# Altium integrated library Cypress PLD Flash370i.IntLib: 84 symbols (part 2 of 4)
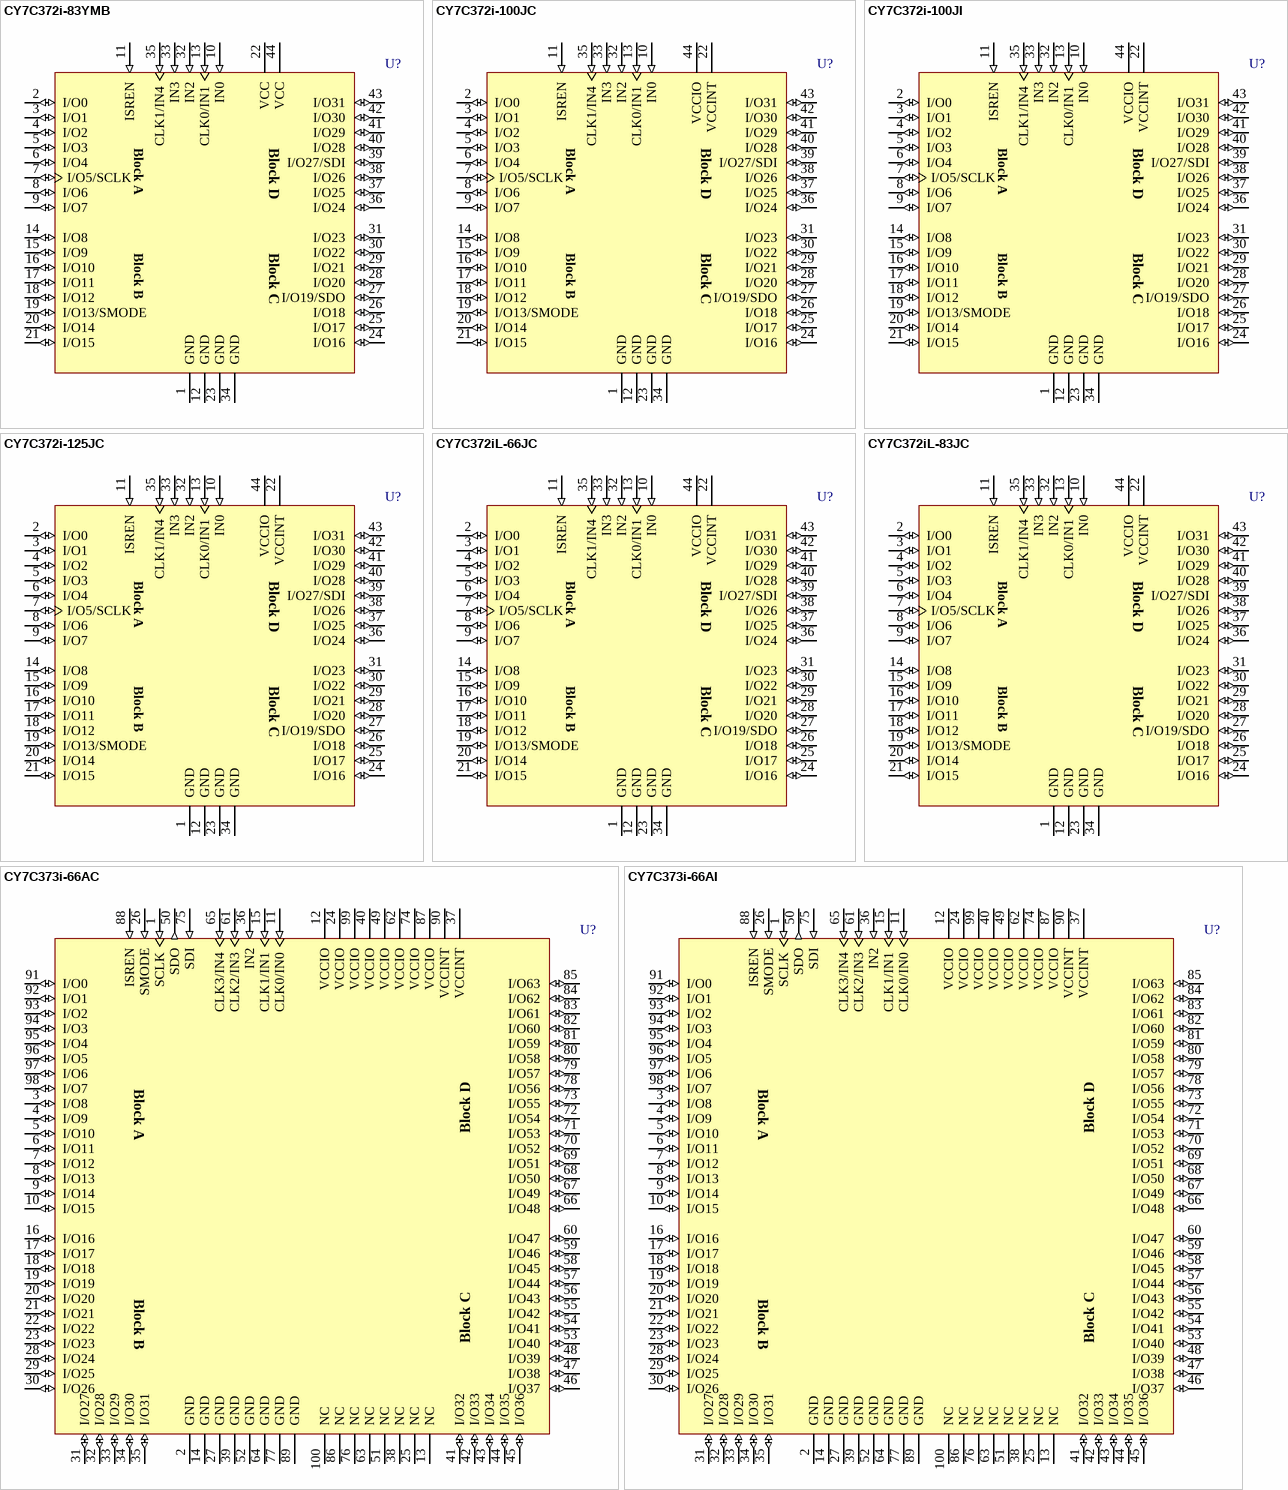
[diagram p20: symbols CY7C372i-83YMB to CY7C373i-66AI]

## CY7C373i-66AC
designator U?
Ultralogic 64-Macrocell Flash CPLD; ComponentAvailability: Not for New Design; Published: 11-Dec-2002; LatestRevisionDate: 13-Apr-2006; LatestRevisionNote: IPC-7351 Footprint Added.; DatasheetVersion: 10-Jul-2000; PackageVersion: Mar-2001; PackageReference: A100; Publisher: Altium Limited; PackageDescription: 100-Pin Thin Quad Flat Pack 0.5 mm Pitch; ComponentLink1Description: Manufacturer Link; ComponentLink1URL: http://www.cypress.com/; ComponentLink2Description: Datasheet; ComponentLink2URL: http://www.cypress.com/portal/server.pt/gateway/PTARGS_0_2_1524_209_259_43/http%3B/sjapp20.mis.cypress.com%3B7001/publishedcontent/publish/design_resources/datasheets/contents/cy7c373i_5.pdf
footprint A100_N (Thin QFP, 100-Leads, Body 14x14mm, Pitch 0.5mm, IPC Medium Density)
footprint A100_L (Thin QFP, 100-Leads, Body 14x14mm, Pitch 0.5mm, IPC High Density)
footprint A100_M (Thin QFP, 100-Leads, Body 14x14mm, Pitch 0.5mm, IPC Low Density)
3D model CY7C373i-A100 (100-Pin Thin Quad Flat Pack 0.5 mm Pitch)
pins: 1 SCLK (in), 2 GND (power), 3 I/O8 (io), 4 I/O9 (io), 5 I/O10 (io), 6 I/O11 (io), 7 I/O12 (io), 8 I/O13 (io), 9 I/O14 (io), 10 I/O15 (io), 11 CLK0/IN0 (in), 12 VCCIO (power), 13 NC, 14 GND (power), 15 CLK1/IN1 (in), 16 I/O16 (io), 17 I/O17 (io), 18 I/O18 (io), 19 I/O19 (io), 20 I/O20 (io), 21 I/O21 (io), 22 I/O22 (io), 23 I/O23 (io), 24 VCCIO (power), 25 NC, 26 SMODE (in), 27 GND (power), 28 I/O24 (io), 29 I/O25 (io), 30 I/O26 (io), 31 I/O27 (io), 32 I/O28 (io), 33 I/O29 (io), 34 I/O30 (io), 35 I/O31 (io), 36 IN2 (in), 37 VCCINT (power), 38 NC, 39 GND (power), 40 VCCIO (power), 41 I/O32 (io), 42 I/O33 (io), 43 I/O34 (io), 44 I/O35 (io), 45 I/O36 (io), 46 I/O37 (io), 47 I/O38 (io), 48 I/O39 (io), 49 VCCIO (power), 50 SDO (out), 51 NC, 52 GND (power), 53 I/O40 (io), 54 I/O41 (io), 55 I/O42 (io), 56 I/O43 (io), 57 I/O44 (io), 58 I/O45 (io), 59 I/O46 (io), 60 I/O47 (io), 61 CLK2/IN3 (in), 62 VCCIO (power), 63 NC, 64 GND (power), 65 CLK3/IN4 (in), 66 I/O48 (io), 67 I/O49 (io), 68 I/O50 (io), 69 I/O51 (io), 70 I/O52 (io), 71 I/O53 (io), 72 I/O54 (io), 73 I/O55 (io), 74 VCCIO (power), 75 SDI (in), 76 NC, 77 GND (power), 78 I/O56 (io), 79 I/O57 (io), 80 I/O58 (io), 81 I/O59 (io), 82 I/O60 (io), 83 I/O61 (io), 84 I/O62 (io), 85 I/O63 (io), 86 NC, 87 VCCIO (power), 88 ISREN (in), 89 GND (power), 90 VCCINT (power), 91 I/O0 (io), 92 I/O1 (io), 93 I/O2 (io), 94 I/O3 (io), 95 I/O4 (io), 96 I/O5 (io), 97 I/O6 (io), 98 I/O7 (io), 99 VCCIO (power), 100 NC
text: Block A; Block D; Block B; Block C

## CY7C373i-66AI
designator U?
Ultralogic 64-Macrocell Flash CPLD; ComponentAvailability: Not for New Design; Published: 11-Dec-2002; LatestRevisionDate: 13-Apr-2006; LatestRevisionNote: IPC-7351 Footprint Added.; DatasheetVersion: 10-Jul-2000; PackageVersion: Mar-2001; PackageReference: A100; Publisher: Altium Limited; PackageDescription: 100-Pin Thin Quad Flat Pack 0.5 mm Pitch; ComponentLink1Description: Manufacturer Link; ComponentLink1URL: http://www.cypress.com/; ComponentLink2Description: Datasheet; ComponentLink2URL: http://www.cypress.com/portal/server.pt/gateway/PTARGS_0_2_1524_209_259_43/http%3B/sjapp20.mis.cypress.com%3B7001/publishedcontent/publish/design_resources/datasheets/contents/cy7c373i_5.pdf
footprint A100_N (Thin QFP, 100-Leads, Body 14x14mm, Pitch 0.5mm, IPC Medium Density)
footprint A100_L (Thin QFP, 100-Leads, Body 14x14mm, Pitch 0.5mm, IPC High Density)
footprint A100_M (Thin QFP, 100-Leads, Body 14x14mm, Pitch 0.5mm, IPC Low Density)
3D model CY7C373i-A100 (100-Pin Thin Quad Flat Pack 0.5 mm Pitch)
pins: 1 SCLK (in), 2 GND (power), 3 I/O8 (io), 4 I/O9 (io), 5 I/O10 (io), 6 I/O11 (io), 7 I/O12 (io), 8 I/O13 (io), 9 I/O14 (io), 10 I/O15 (io), 11 CLK0/IN0 (in), 12 VCCIO (power), 13 NC, 14 GND (power), 15 CLK1/IN1 (in), 16 I/O16 (io), 17 I/O17 (io), 18 I/O18 (io), 19 I/O19 (io), 20 I/O20 (io), 21 I/O21 (io), 22 I/O22 (io), 23 I/O23 (io), 24 VCCIO (power), 25 NC, 26 SMODE (in), 27 GND (power), 28 I/O24 (io), 29 I/O25 (io), 30 I/O26 (io), 31 I/O27 (io), 32 I/O28 (io), 33 I/O29 (io), 34 I/O30 (io), 35 I/O31 (io), 36 IN2 (in), 37 VCCINT (power), 38 NC, 39 GND (power), 40 VCCIO (power), 41 I/O32 (io), 42 I/O33 (io), 43 I/O34 (io), 44 I/O35 (io), 45 I/O36 (io), 46 I/O37 (io), 47 I/O38 (io), 48 I/O39 (io), 49 VCCIO (power), 50 SDO (out), 51 NC, 52 GND (power), 53 I/O40 (io), 54 I/O41 (io), 55 I/O42 (io), 56 I/O43 (io), 57 I/O44 (io), 58 I/O45 (io), 59 I/O46 (io), 60 I/O47 (io), 61 CLK2/IN3 (in), 62 VCCIO (power), 63 NC, 64 GND (power), 65 CLK3/IN4 (in), 66 I/O48 (io), 67 I/O49 (io), 68 I/O50 (io), 69 I/O51 (io), 70 I/O52 (io), 71 I/O53 (io), 72 I/O54 (io), 73 I/O55 (io), 74 VCCIO (power), 75 SDI (in), 76 NC, 77 GND (power), 78 I/O56 (io), 79 I/O57 (io), 80 I/O58 (io), 81 I/O59 (io), 82 I/O60 (io), 83 I/O61 (io), 84 I/O62 (io), 85 I/O63 (io), 86 NC, 87 VCCIO (power), 88 ISREN (in), 89 GND (power), 90 VCCINT (power), 91 I/O0 (io), 92 I/O1 (io), 93 I/O2 (io), 94 I/O3 (io), 95 I/O4 (io), 96 I/O5 (io), 97 I/O6 (io), 98 I/O7 (io), 99 VCCIO (power), 100 NC
text: Block A; Block D; Block B; Block C

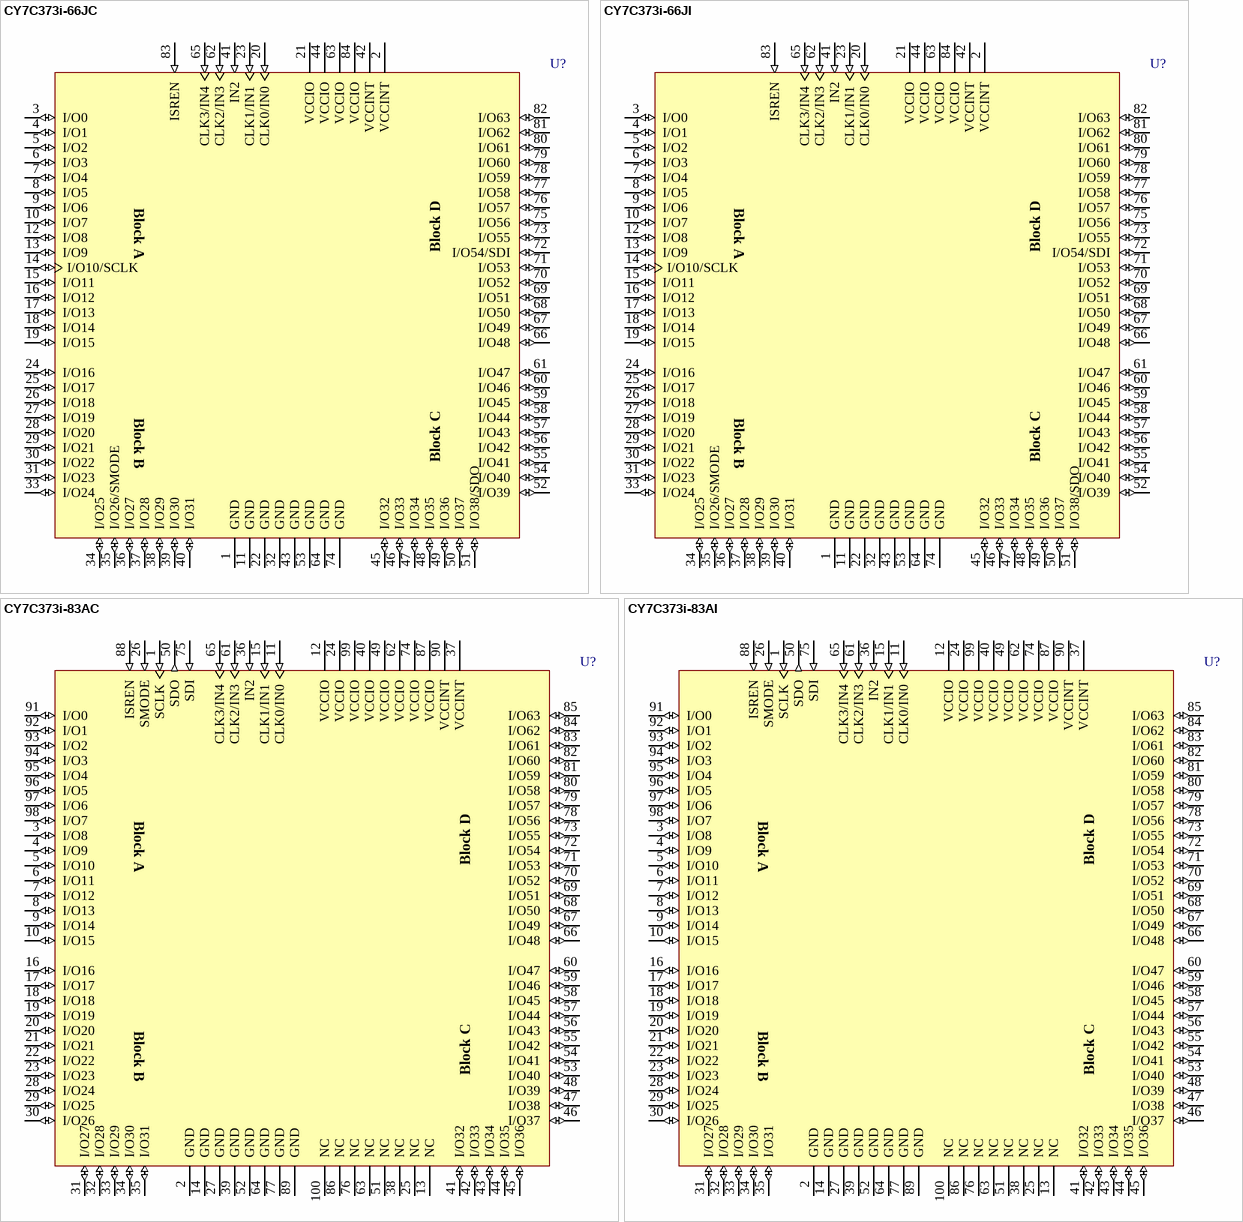
[diagram p4: symbols CY7C373i-66JC to CY7C373i-83AI]

## CY7C373i-66JC
designator U?
Ultralogic 64-Macrocell Flash CPLD; ComponentAvailability: Not for New Design; Published: 11-Dec-2002; LatestRevisionDate: 13-Apr-2006; LatestRevisionNote: IPC-7351 Footprint Added.; DatasheetVersion: 10-Jul-2000; PackageVersion: Mar-2001; PackageReference: J83; Publisher: Altium Limited; PackageDescription: 84-Pin Plastic Leaded Chip Carrier 1.27 mm Pitch; Code_IPC: PLCC-84; ComponentLink1Description: Manufacturer Link; ComponentLink1URL: http://www.cypress.com/; ComponentLink2Description: Datasheet; ComponentLink2URL: http://www.cypress.com/portal/server.pt/gateway/PTARGS_0_2_1524_209_259_43/http%3B/sjapp20.mis.cypress.com%3B7001/publishedcontent/publish/design_resources/datasheets/contents/cy7c373i_5.pdf
footprint J83_N (Leaded Chip Carrier, 84-Leads, Body 29.3x29.3mm, Pitch 1.27mm, IPC Medium Density)
footprint J83_L (Leaded Chip Carrier, 84-Leads, Body 29.3x29.3mm, Pitch 1.27mm, IPC High Density)
footprint J83_M (Leaded Chip Carrier, 84-Leads, Body 29.3x29.3mm, Pitch 1.27mm, IPC Low Density)
3D model CY7C373i-J83 (84-Pin Plastic Leaded Chip Carrier 1.27 mm Pitch)
pins: 1 GND (power), 2 VCCINT (power), 3 I/O0 (io), 4 I/O1 (io), 5 I/O2 (io), 6 I/O3 (io), 7 I/O4 (io), 8 I/O5 (io), 9 I/O6 (io), 10 I/O7 (io), 11 GND (power), 12 I/O8 (io), 13 I/O9 (io), 14 I/O10/SCLK (io), 15 I/O11 (io), 16 I/O12 (io), 17 I/O13 (io), 18 I/O14 (io), 19 I/O15 (io), 20 CLK0/IN0 (in), 21 VCCIO (power), 22 GND (power), 23 CLK1/IN1 (in), 24 I/O16 (io), 25 I/O17 (io), 26 I/O18 (io), 27 I/O19 (io), 28 I/O20 (io), 29 I/O21 (io), 30 I/O22 (io), 31 I/O23 (io), 32 GND (power), 33 I/O24 (io), 34 I/O25 (io), 35 I/O26/SMODE (io), 36 I/O27 (io), 37 I/O28 (io), 38 I/O29 (io), 39 I/O30 (io), 40 I/O31 (io), 41 IN2 (in), 42 VCCINT (power), 43 GND (power), 44 VCCIO (power), 45 I/O32 (io), 46 I/O33 (io), 47 I/O34 (io), 48 I/O35 (io), 49 I/O36 (io), 50 I/O37 (io), 51 I/O38/SDO (io), 52 I/O39 (io), 53 GND (power), 54 I/O40 (io), 55 I/O41 (io), 56 I/O42 (io), 57 I/O43 (io), 58 I/O44 (io), 59 I/O45 (io), 60 I/O46 (io), 61 I/O47 (io), 62 CLK2/IN3 (in), 63 VCCIO (power), 64 GND (power), 65 CLK3/IN4 (in), 66 I/O48 (io), 67 I/O49 (io), 68 I/O50 (io), 69 I/O51 (io), 70 I/O52 (io), 71 I/O53 (io), 72 I/O54/SDI (io), 73 I/O55 (io), 74 GND (power), 75 I/O56 (io), 76 I/O57 (io), 77 I/O58 (io), 78 I/O59 (io), 79 I/O60 (io), 80 I/O61 (io), 81 I/O62 (io), 82 I/O63 (io), 83 ISREN (in), 84 VCCIO (power)
text: Block A; Block D; Block B; Block C

## CY7C373i-66JI
designator U?
Ultralogic 64-Macrocell Flash CPLD; ComponentAvailability: Not for New Design; Published: 11-Dec-2002; LatestRevisionDate: 13-Apr-2006; LatestRevisionNote: IPC-7351 Footprint Added.; DatasheetVersion: 10-Jul-2000; PackageVersion: Mar-2001; PackageReference: J83; Publisher: Altium Limited; PackageDescription: 84-Pin Plastic Leaded Chip Carrier 1.27 mm Pitch; Code_IPC: PLCC-84; ComponentLink1Description: Manufacturer Link; ComponentLink1URL: http://www.cypress.com/; ComponentLink2Description: Datasheet; ComponentLink2URL: http://www.cypress.com/portal/server.pt/gateway/PTARGS_0_2_1524_209_259_43/http%3B/sjapp20.mis.cypress.com%3B7001/publishedcontent/publish/design_resources/datasheets/contents/cy7c373i_5.pdf
footprint J83_N (Leaded Chip Carrier, 84-Leads, Body 29.3x29.3mm, Pitch 1.27mm, IPC Medium Density)
footprint J83_L (Leaded Chip Carrier, 84-Leads, Body 29.3x29.3mm, Pitch 1.27mm, IPC High Density)
footprint J83_M (Leaded Chip Carrier, 84-Leads, Body 29.3x29.3mm, Pitch 1.27mm, IPC Low Density)
3D model CY7C373i-J83 (84-Pin Plastic Leaded Chip Carrier 1.27 mm Pitch)
pins: 1 GND (power), 2 VCCINT (power), 3 I/O0 (io), 4 I/O1 (io), 5 I/O2 (io), 6 I/O3 (io), 7 I/O4 (io), 8 I/O5 (io), 9 I/O6 (io), 10 I/O7 (io), 11 GND (power), 12 I/O8 (io), 13 I/O9 (io), 14 I/O10/SCLK (io), 15 I/O11 (io), 16 I/O12 (io), 17 I/O13 (io), 18 I/O14 (io), 19 I/O15 (io), 20 CLK0/IN0 (in), 21 VCCIO (power), 22 GND (power), 23 CLK1/IN1 (in), 24 I/O16 (io), 25 I/O17 (io), 26 I/O18 (io), 27 I/O19 (io), 28 I/O20 (io), 29 I/O21 (io), 30 I/O22 (io), 31 I/O23 (io), 32 GND (power), 33 I/O24 (io), 34 I/O25 (io), 35 I/O26/SMODE (io), 36 I/O27 (io), 37 I/O28 (io), 38 I/O29 (io), 39 I/O30 (io), 40 I/O31 (io), 41 IN2 (in), 42 VCCINT (power), 43 GND (power), 44 VCCIO (power), 45 I/O32 (io), 46 I/O33 (io), 47 I/O34 (io), 48 I/O35 (io), 49 I/O36 (io), 50 I/O37 (io), 51 I/O38/SDO (io), 52 I/O39 (io), 53 GND (power), 54 I/O40 (io), 55 I/O41 (io), 56 I/O42 (io), 57 I/O43 (io), 58 I/O44 (io), 59 I/O45 (io), 60 I/O46 (io), 61 I/O47 (io), 62 CLK2/IN3 (in), 63 VCCIO (power), 64 GND (power), 65 CLK3/IN4 (in), 66 I/O48 (io), 67 I/O49 (io), 68 I/O50 (io), 69 I/O51 (io), 70 I/O52 (io), 71 I/O53 (io), 72 I/O54/SDI (io), 73 I/O55 (io), 74 GND (power), 75 I/O56 (io), 76 I/O57 (io), 77 I/O58 (io), 78 I/O59 (io), 79 I/O60 (io), 80 I/O61 (io), 81 I/O62 (io), 82 I/O63 (io), 83 ISREN (in), 84 VCCIO (power)
text: Block A; Block D; Block B; Block C

## CY7C373i-83AC
designator U?
Ultralogic 64-Macrocell Flash CPLD; ComponentAvailability: Not for New Design; Published: 11-Dec-2002; LatestRevisionDate: 13-Apr-2006; LatestRevisionNote: IPC-7351 Footprint Added.; DatasheetVersion: 10-Jul-2000; PackageVersion: Mar-2001; PackageReference: A100; Publisher: Altium Limited; PackageDescription: 100-Pin Thin Quad Flat Pack 0.5 mm Pitch; ComponentLink1Description: Manufacturer Link; ComponentLink1URL: http://www.cypress.com/; ComponentLink2Description: Datasheet; ComponentLink2URL: http://www.cypress.com/portal/server.pt/gateway/PTARGS_0_2_1524_209_259_43/http%3B/sjapp20.mis.cypress.com%3B7001/publishedcontent/publish/design_resources/datasheets/contents/cy7c373i_5.pdf
footprint A100_N (Thin QFP, 100-Leads, Body 14x14mm, Pitch 0.5mm, IPC Medium Density)
footprint A100_L (Thin QFP, 100-Leads, Body 14x14mm, Pitch 0.5mm, IPC High Density)
footprint A100_M (Thin QFP, 100-Leads, Body 14x14mm, Pitch 0.5mm, IPC Low Density)
3D model CY7C373i-A100 (100-Pin Thin Quad Flat Pack 0.5 mm Pitch)
pins: 1 SCLK (in), 2 GND (power), 3 I/O8 (io), 4 I/O9 (io), 5 I/O10 (io), 6 I/O11 (io), 7 I/O12 (io), 8 I/O13 (io), 9 I/O14 (io), 10 I/O15 (io), 11 CLK0/IN0 (in), 12 VCCIO (power), 13 NC, 14 GND (power), 15 CLK1/IN1 (in), 16 I/O16 (io), 17 I/O17 (io), 18 I/O18 (io), 19 I/O19 (io), 20 I/O20 (io), 21 I/O21 (io), 22 I/O22 (io), 23 I/O23 (io), 24 VCCIO (power), 25 NC, 26 SMODE (in), 27 GND (power), 28 I/O24 (io), 29 I/O25 (io), 30 I/O26 (io), 31 I/O27 (io), 32 I/O28 (io), 33 I/O29 (io), 34 I/O30 (io), 35 I/O31 (io), 36 IN2 (in), 37 VCCINT (power), 38 NC, 39 GND (power), 40 VCCIO (power), 41 I/O32 (io), 42 I/O33 (io), 43 I/O34 (io), 44 I/O35 (io), 45 I/O36 (io), 46 I/O37 (io), 47 I/O38 (io), 48 I/O39 (io), 49 VCCIO (power), 50 SDO (out), 51 NC, 52 GND (power), 53 I/O40 (io), 54 I/O41 (io), 55 I/O42 (io), 56 I/O43 (io), 57 I/O44 (io), 58 I/O45 (io), 59 I/O46 (io), 60 I/O47 (io), 61 CLK2/IN3 (in), 62 VCCIO (power), 63 NC, 64 GND (power), 65 CLK3/IN4 (in), 66 I/O48 (io), 67 I/O49 (io), 68 I/O50 (io), 69 I/O51 (io), 70 I/O52 (io), 71 I/O53 (io), 72 I/O54 (io), 73 I/O55 (io), 74 VCCIO (power), 75 SDI (in), 76 NC, 77 GND (power), 78 I/O56 (io), 79 I/O57 (io), 80 I/O58 (io), 81 I/O59 (io), 82 I/O60 (io), 83 I/O61 (io), 84 I/O62 (io), 85 I/O63 (io), 86 NC, 87 VCCIO (power), 88 ISREN (in), 89 GND (power), 90 VCCINT (power), 91 I/O0 (io), 92 I/O1 (io), 93 I/O2 (io), 94 I/O3 (io), 95 I/O4 (io), 96 I/O5 (io), 97 I/O6 (io), 98 I/O7 (io), 99 VCCIO (power), 100 NC
text: Block A; Block D; Block B; Block C

## CY7C373i-83AI
designator U?
Ultralogic 64-Macrocell Flash CPLD; ComponentAvailability: Not for New Design; Published: 11-Dec-2002; LatestRevisionDate: 13-Apr-2006; LatestRevisionNote: IPC-7351 Footprint Added.; DatasheetVersion: 10-Jul-2000; PackageVersion: Mar-2001; PackageReference: A100; Publisher: Altium Limited; PackageDescription: 100-Pin Thin Quad Flat Pack 0.5 mm Pitch; ComponentLink1Description: Manufacturer Link; ComponentLink1URL: http://www.cypress.com/; ComponentLink2Description: Datasheet; ComponentLink2URL: http://www.cypress.com/portal/server.pt/gateway/PTARGS_0_2_1524_209_259_43/http%3B/sjapp20.mis.cypress.com%3B7001/publishedcontent/publish/design_resources/datasheets/contents/cy7c373i_5.pdf
footprint A100_N (Thin QFP, 100-Leads, Body 14x14mm, Pitch 0.5mm, IPC Medium Density)
footprint A100_L (Thin QFP, 100-Leads, Body 14x14mm, Pitch 0.5mm, IPC High Density)
footprint A100_M (Thin QFP, 100-Leads, Body 14x14mm, Pitch 0.5mm, IPC Low Density)
3D model CY7C373i-A100 (100-Pin Thin Quad Flat Pack 0.5 mm Pitch)
pins: 1 SCLK (in), 2 GND (power), 3 I/O8 (io), 4 I/O9 (io), 5 I/O10 (io), 6 I/O11 (io), 7 I/O12 (io), 8 I/O13 (io), 9 I/O14 (io), 10 I/O15 (io), 11 CLK0/IN0 (in), 12 VCCIO (power), 13 NC, 14 GND (power), 15 CLK1/IN1 (in), 16 I/O16 (io), 17 I/O17 (io), 18 I/O18 (io), 19 I/O19 (io), 20 I/O20 (io), 21 I/O21 (io), 22 I/O22 (io), 23 I/O23 (io), 24 VCCIO (power), 25 NC, 26 SMODE (in), 27 GND (power), 28 I/O24 (io), 29 I/O25 (io), 30 I/O26 (io), 31 I/O27 (io), 32 I/O28 (io), 33 I/O29 (io), 34 I/O30 (io), 35 I/O31 (io), 36 IN2 (in), 37 VCCINT (power), 38 NC, 39 GND (power), 40 VCCIO (power), 41 I/O32 (io), 42 I/O33 (io), 43 I/O34 (io), 44 I/O35 (io), 45 I/O36 (io), 46 I/O37 (io), 47 I/O38 (io), 48 I/O39 (io), 49 VCCIO (power), 50 SDO (out), 51 NC, 52 GND (power), 53 I/O40 (io), 54 I/O41 (io), 55 I/O42 (io), 56 I/O43 (io), 57 I/O44 (io), 58 I/O45 (io), 59 I/O46 (io), 60 I/O47 (io), 61 CLK2/IN3 (in), 62 VCCIO (power), 63 NC, 64 GND (power), 65 CLK3/IN4 (in), 66 I/O48 (io), 67 I/O49 (io), 68 I/O50 (io), 69 I/O51 (io), 70 I/O52 (io), 71 I/O53 (io), 72 I/O54 (io), 73 I/O55 (io), 74 VCCIO (power), 75 SDI (in), 76 NC, 77 GND (power), 78 I/O56 (io), 79 I/O57 (io), 80 I/O58 (io), 81 I/O59 (io), 82 I/O60 (io), 83 I/O61 (io), 84 I/O62 (io), 85 I/O63 (io), 86 NC, 87 VCCIO (power), 88 ISREN (in), 89 GND (power), 90 VCCINT (power), 91 I/O0 (io), 92 I/O1 (io), 93 I/O2 (io), 94 I/O3 (io), 95 I/O4 (io), 96 I/O5 (io), 97 I/O6 (io), 98 I/O7 (io), 99 VCCIO (power), 100 NC
text: Block A; Block D; Block B; Block C

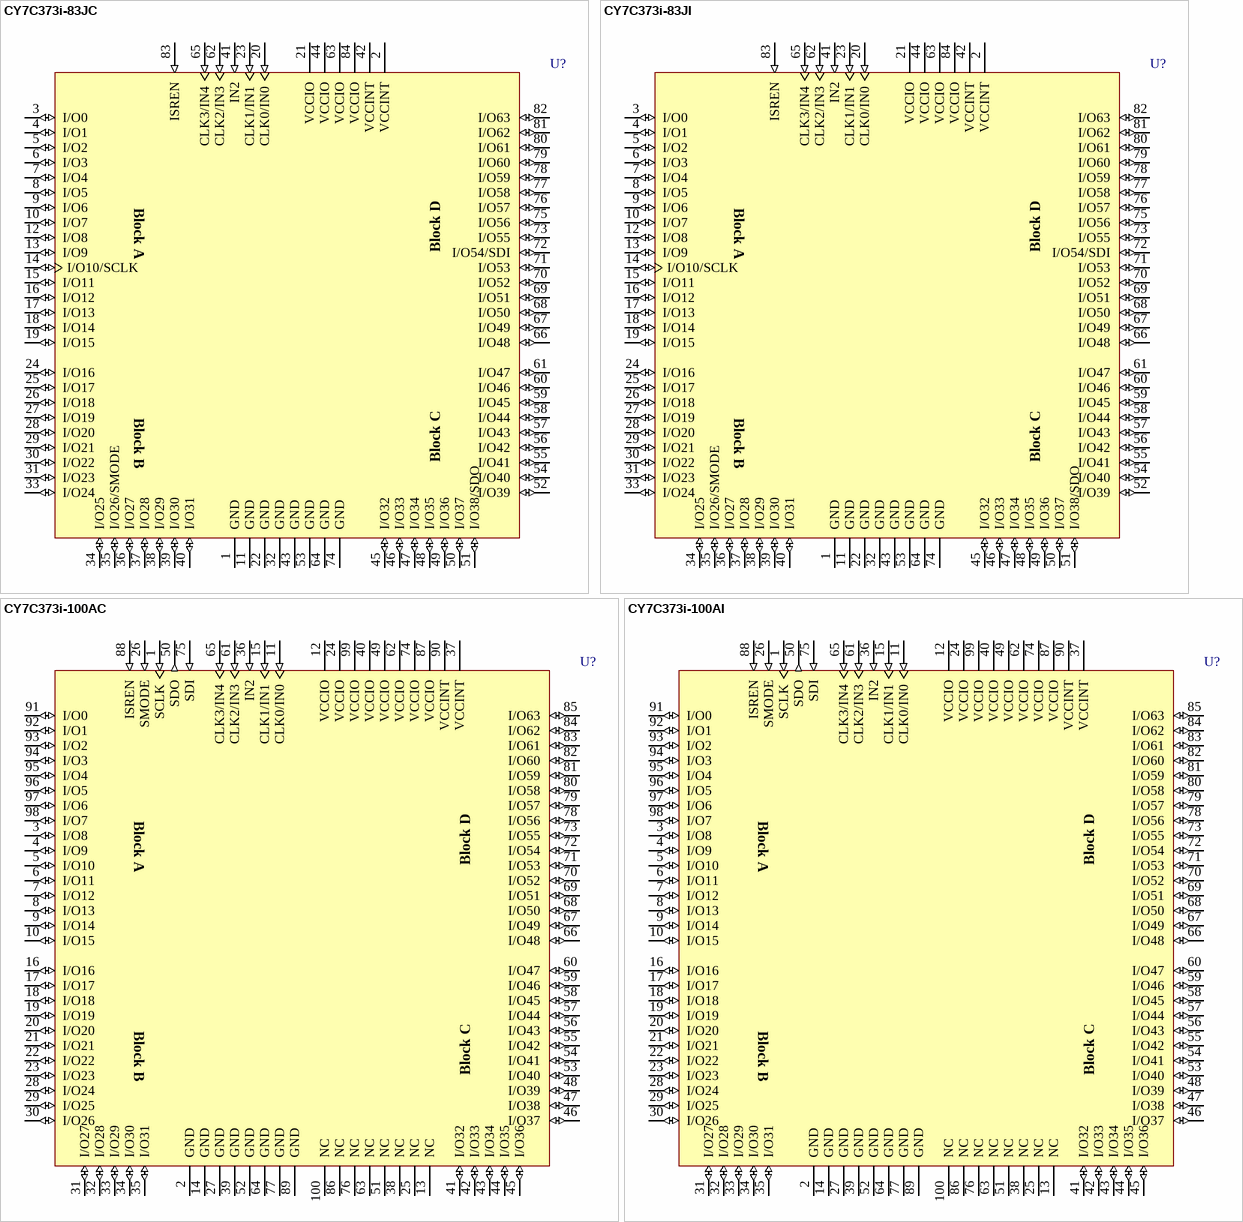
[diagram p5: symbols CY7C373i-83JC to CY7C373i-100AI]

## CY7C373i-83JC
designator U?
Ultralogic 64-Macrocell Flash CPLD; ComponentAvailability: Not for New Design; Published: 11-Dec-2002; LatestRevisionDate: 13-Apr-2006; LatestRevisionNote: IPC-7351 Footprint Added.; DatasheetVersion: 10-Jul-2000; PackageVersion: Mar-2001; PackageReference: J83; Publisher: Altium Limited; PackageDescription: 84-Pin Plastic Leaded Chip Carrier 1.27 mm Pitch; Code_IPC: PLCC-84; ComponentLink1Description: Manufacturer Link; ComponentLink1URL: http://www.cypress.com/; ComponentLink2Description: Datasheet; ComponentLink2URL: http://www.cypress.com/portal/server.pt/gateway/PTARGS_0_2_1524_209_259_43/http%3B/sjapp20.mis.cypress.com%3B7001/publishedcontent/publish/design_resources/datasheets/contents/cy7c373i_5.pdf
footprint J83_N (Leaded Chip Carrier, 84-Leads, Body 29.3x29.3mm, Pitch 1.27mm, IPC Medium Density)
footprint J83_L (Leaded Chip Carrier, 84-Leads, Body 29.3x29.3mm, Pitch 1.27mm, IPC High Density)
footprint J83_M (Leaded Chip Carrier, 84-Leads, Body 29.3x29.3mm, Pitch 1.27mm, IPC Low Density)
3D model CY7C373i-J83 (84-Pin Plastic Leaded Chip Carrier 1.27 mm Pitch)
pins: 1 GND (power), 2 VCCINT (power), 3 I/O0 (io), 4 I/O1 (io), 5 I/O2 (io), 6 I/O3 (io), 7 I/O4 (io), 8 I/O5 (io), 9 I/O6 (io), 10 I/O7 (io), 11 GND (power), 12 I/O8 (io), 13 I/O9 (io), 14 I/O10/SCLK (io), 15 I/O11 (io), 16 I/O12 (io), 17 I/O13 (io), 18 I/O14 (io), 19 I/O15 (io), 20 CLK0/IN0 (in), 21 VCCIO (power), 22 GND (power), 23 CLK1/IN1 (in), 24 I/O16 (io), 25 I/O17 (io), 26 I/O18 (io), 27 I/O19 (io), 28 I/O20 (io), 29 I/O21 (io), 30 I/O22 (io), 31 I/O23 (io), 32 GND (power), 33 I/O24 (io), 34 I/O25 (io), 35 I/O26/SMODE (io), 36 I/O27 (io), 37 I/O28 (io), 38 I/O29 (io), 39 I/O30 (io), 40 I/O31 (io), 41 IN2 (in), 42 VCCINT (power), 43 GND (power), 44 VCCIO (power), 45 I/O32 (io), 46 I/O33 (io), 47 I/O34 (io), 48 I/O35 (io), 49 I/O36 (io), 50 I/O37 (io), 51 I/O38/SDO (io), 52 I/O39 (io), 53 GND (power), 54 I/O40 (io), 55 I/O41 (io), 56 I/O42 (io), 57 I/O43 (io), 58 I/O44 (io), 59 I/O45 (io), 60 I/O46 (io), 61 I/O47 (io), 62 CLK2/IN3 (in), 63 VCCIO (power), 64 GND (power), 65 CLK3/IN4 (in), 66 I/O48 (io), 67 I/O49 (io), 68 I/O50 (io), 69 I/O51 (io), 70 I/O52 (io), 71 I/O53 (io), 72 I/O54/SDI (io), 73 I/O55 (io), 74 GND (power), 75 I/O56 (io), 76 I/O57 (io), 77 I/O58 (io), 78 I/O59 (io), 79 I/O60 (io), 80 I/O61 (io), 81 I/O62 (io), 82 I/O63 (io), 83 ISREN (in), 84 VCCIO (power)
text: Block A; Block D; Block B; Block C

## CY7C373i-83JI
designator U?
Ultralogic 64-Macrocell Flash CPLD; ComponentAvailability: Not for New Design; Published: 11-Dec-2002; LatestRevisionDate: 13-Apr-2006; LatestRevisionNote: IPC-7351 Footprint Added.; DatasheetVersion: 10-Jul-2000; PackageVersion: Mar-2001; PackageReference: J83; Publisher: Altium Limited; PackageDescription: 84-Pin Plastic Leaded Chip Carrier 1.27 mm Pitch; Code_IPC: PLCC-84; ComponentLink1Description: Manufacturer Link; ComponentLink1URL: http://www.cypress.com/; ComponentLink2Description: Datasheet; ComponentLink2URL: http://www.cypress.com/portal/server.pt/gateway/PTARGS_0_2_1524_209_259_43/http%3B/sjapp20.mis.cypress.com%3B7001/publishedcontent/publish/design_resources/datasheets/contents/cy7c373i_5.pdf
footprint J83_N (Leaded Chip Carrier, 84-Leads, Body 29.3x29.3mm, Pitch 1.27mm, IPC Medium Density)
footprint J83_L (Leaded Chip Carrier, 84-Leads, Body 29.3x29.3mm, Pitch 1.27mm, IPC High Density)
footprint J83_M (Leaded Chip Carrier, 84-Leads, Body 29.3x29.3mm, Pitch 1.27mm, IPC Low Density)
3D model CY7C373i-J83 (84-Pin Plastic Leaded Chip Carrier 1.27 mm Pitch)
pins: 1 GND (power), 2 VCCINT (power), 3 I/O0 (io), 4 I/O1 (io), 5 I/O2 (io), 6 I/O3 (io), 7 I/O4 (io), 8 I/O5 (io), 9 I/O6 (io), 10 I/O7 (io), 11 GND (power), 12 I/O8 (io), 13 I/O9 (io), 14 I/O10/SCLK (io), 15 I/O11 (io), 16 I/O12 (io), 17 I/O13 (io), 18 I/O14 (io), 19 I/O15 (io), 20 CLK0/IN0 (in), 21 VCCIO (power), 22 GND (power), 23 CLK1/IN1 (in), 24 I/O16 (io), 25 I/O17 (io), 26 I/O18 (io), 27 I/O19 (io), 28 I/O20 (io), 29 I/O21 (io), 30 I/O22 (io), 31 I/O23 (io), 32 GND (power), 33 I/O24 (io), 34 I/O25 (io), 35 I/O26/SMODE (io), 36 I/O27 (io), 37 I/O28 (io), 38 I/O29 (io), 39 I/O30 (io), 40 I/O31 (io), 41 IN2 (in), 42 VCCINT (power), 43 GND (power), 44 VCCIO (power), 45 I/O32 (io), 46 I/O33 (io), 47 I/O34 (io), 48 I/O35 (io), 49 I/O36 (io), 50 I/O37 (io), 51 I/O38/SDO (io), 52 I/O39 (io), 53 GND (power), 54 I/O40 (io), 55 I/O41 (io), 56 I/O42 (io), 57 I/O43 (io), 58 I/O44 (io), 59 I/O45 (io), 60 I/O46 (io), 61 I/O47 (io), 62 CLK2/IN3 (in), 63 VCCIO (power), 64 GND (power), 65 CLK3/IN4 (in), 66 I/O48 (io), 67 I/O49 (io), 68 I/O50 (io), 69 I/O51 (io), 70 I/O52 (io), 71 I/O53 (io), 72 I/O54/SDI (io), 73 I/O55 (io), 74 GND (power), 75 I/O56 (io), 76 I/O57 (io), 77 I/O58 (io), 78 I/O59 (io), 79 I/O60 (io), 80 I/O61 (io), 81 I/O62 (io), 82 I/O63 (io), 83 ISREN (in), 84 VCCIO (power)
text: Block A; Block D; Block B; Block C

## CY7C373i-100AC
designator U?
Ultralogic 64-Macrocell Flash CPLD; ComponentAvailability: Not for New Design; Published: 11-Dec-2002; LatestRevisionDate: 13-Apr-2006; LatestRevisionNote: IPC-7351 Footprint Added.; DatasheetVersion: 10-Jul-2000; PackageVersion: Mar-2001; PackageReference: A100; Publisher: Altium Limited; PackageDescription: 100-Pin Thin Quad Flat Pack 0.5 mm Pitch; ComponentLink1Description: Manufacturer Link; ComponentLink1URL: http://www.cypress.com/; ComponentLink2Description: Datasheet; ComponentLink2URL: http://www.cypress.com/portal/server.pt/gateway/PTARGS_0_2_1524_209_259_43/http%3B/sjapp20.mis.cypress.com%3B7001/publishedcontent/publish/design_resources/datasheets/contents/cy7c373i_5.pdf
footprint A100_N (Thin QFP, 100-Leads, Body 14x14mm, Pitch 0.5mm, IPC Medium Density)
footprint A100_L (Thin QFP, 100-Leads, Body 14x14mm, Pitch 0.5mm, IPC High Density)
footprint A100_M (Thin QFP, 100-Leads, Body 14x14mm, Pitch 0.5mm, IPC Low Density)
3D model CY7C373i-A100 (100-Pin Thin Quad Flat Pack 0.5 mm Pitch)
pins: 1 SCLK (in), 2 GND (power), 3 I/O8 (io), 4 I/O9 (io), 5 I/O10 (io), 6 I/O11 (io), 7 I/O12 (io), 8 I/O13 (io), 9 I/O14 (io), 10 I/O15 (io), 11 CLK0/IN0 (in), 12 VCCIO (power), 13 NC, 14 GND (power), 15 CLK1/IN1 (in), 16 I/O16 (io), 17 I/O17 (io), 18 I/O18 (io), 19 I/O19 (io), 20 I/O20 (io), 21 I/O21 (io), 22 I/O22 (io), 23 I/O23 (io), 24 VCCIO (power), 25 NC, 26 SMODE (in), 27 GND (power), 28 I/O24 (io), 29 I/O25 (io), 30 I/O26 (io), 31 I/O27 (io), 32 I/O28 (io), 33 I/O29 (io), 34 I/O30 (io), 35 I/O31 (io), 36 IN2 (in), 37 VCCINT (power), 38 NC, 39 GND (power), 40 VCCIO (power), 41 I/O32 (io), 42 I/O33 (io), 43 I/O34 (io), 44 I/O35 (io), 45 I/O36 (io), 46 I/O37 (io), 47 I/O38 (io), 48 I/O39 (io), 49 VCCIO (power), 50 SDO (out), 51 NC, 52 GND (power), 53 I/O40 (io), 54 I/O41 (io), 55 I/O42 (io), 56 I/O43 (io), 57 I/O44 (io), 58 I/O45 (io), 59 I/O46 (io), 60 I/O47 (io), 61 CLK2/IN3 (in), 62 VCCIO (power), 63 NC, 64 GND (power), 65 CLK3/IN4 (in), 66 I/O48 (io), 67 I/O49 (io), 68 I/O50 (io), 69 I/O51 (io), 70 I/O52 (io), 71 I/O53 (io), 72 I/O54 (io), 73 I/O55 (io), 74 VCCIO (power), 75 SDI (in), 76 NC, 77 GND (power), 78 I/O56 (io), 79 I/O57 (io), 80 I/O58 (io), 81 I/O59 (io), 82 I/O60 (io), 83 I/O61 (io), 84 I/O62 (io), 85 I/O63 (io), 86 NC, 87 VCCIO (power), 88 ISREN (in), 89 GND (power), 90 VCCINT (power), 91 I/O0 (io), 92 I/O1 (io), 93 I/O2 (io), 94 I/O3 (io), 95 I/O4 (io), 96 I/O5 (io), 97 I/O6 (io), 98 I/O7 (io), 99 VCCIO (power), 100 NC
text: Block A; Block D; Block B; Block C

## CY7C373i-100AI
designator U?
Ultralogic 64-Macrocell Flash CPLD; ComponentAvailability: Not for New Design; Published: 11-Dec-2002; LatestRevisionDate: 13-Apr-2006; LatestRevisionNote: IPC-7351 Footprint Added.; DatasheetVersion: 10-Jul-2000; PackageVersion: Mar-2001; PackageReference: A100; Publisher: Altium Limited; PackageDescription: 100-Pin Thin Quad Flat Pack 0.5 mm Pitch; ComponentLink1Description: Manufacturer Link; ComponentLink1URL: http://www.cypress.com/; ComponentLink2Description: Datasheet; ComponentLink2URL: http://www.cypress.com/portal/server.pt/gateway/PTARGS_0_2_1524_209_259_43/http%3B/sjapp20.mis.cypress.com%3B7001/publishedcontent/publish/design_resources/datasheets/contents/cy7c373i_5.pdf
footprint A100_N (Thin QFP, 100-Leads, Body 14x14mm, Pitch 0.5mm, IPC Medium Density)
footprint A100_L (Thin QFP, 100-Leads, Body 14x14mm, Pitch 0.5mm, IPC High Density)
footprint A100_M (Thin QFP, 100-Leads, Body 14x14mm, Pitch 0.5mm, IPC Low Density)
3D model CY7C373i-A100 (100-Pin Thin Quad Flat Pack 0.5 mm Pitch)
pins: 1 SCLK (in), 2 GND (power), 3 I/O8 (io), 4 I/O9 (io), 5 I/O10 (io), 6 I/O11 (io), 7 I/O12 (io), 8 I/O13 (io), 9 I/O14 (io), 10 I/O15 (io), 11 CLK0/IN0 (in), 12 VCCIO (power), 13 NC, 14 GND (power), 15 CLK1/IN1 (in), 16 I/O16 (io), 17 I/O17 (io), 18 I/O18 (io), 19 I/O19 (io), 20 I/O20 (io), 21 I/O21 (io), 22 I/O22 (io), 23 I/O23 (io), 24 VCCIO (power), 25 NC, 26 SMODE (in), 27 GND (power), 28 I/O24 (io), 29 I/O25 (io), 30 I/O26 (io), 31 I/O27 (io), 32 I/O28 (io), 33 I/O29 (io), 34 I/O30 (io), 35 I/O31 (io), 36 IN2 (in), 37 VCCINT (power), 38 NC, 39 GND (power), 40 VCCIO (power), 41 I/O32 (io), 42 I/O33 (io), 43 I/O34 (io), 44 I/O35 (io), 45 I/O36 (io), 46 I/O37 (io), 47 I/O38 (io), 48 I/O39 (io), 49 VCCIO (power), 50 SDO (out), 51 NC, 52 GND (power), 53 I/O40 (io), 54 I/O41 (io), 55 I/O42 (io), 56 I/O43 (io), 57 I/O44 (io), 58 I/O45 (io), 59 I/O46 (io), 60 I/O47 (io), 61 CLK2/IN3 (in), 62 VCCIO (power), 63 NC, 64 GND (power), 65 CLK3/IN4 (in), 66 I/O48 (io), 67 I/O49 (io), 68 I/O50 (io), 69 I/O51 (io), 70 I/O52 (io), 71 I/O53 (io), 72 I/O54 (io), 73 I/O55 (io), 74 VCCIO (power), 75 SDI (in), 76 NC, 77 GND (power), 78 I/O56 (io), 79 I/O57 (io), 80 I/O58 (io), 81 I/O59 (io), 82 I/O60 (io), 83 I/O61 (io), 84 I/O62 (io), 85 I/O63 (io), 86 NC, 87 VCCIO (power), 88 ISREN (in), 89 GND (power), 90 VCCINT (power), 91 I/O0 (io), 92 I/O1 (io), 93 I/O2 (io), 94 I/O3 (io), 95 I/O4 (io), 96 I/O5 (io), 97 I/O6 (io), 98 I/O7 (io), 99 VCCIO (power), 100 NC
text: Block A; Block D; Block B; Block C

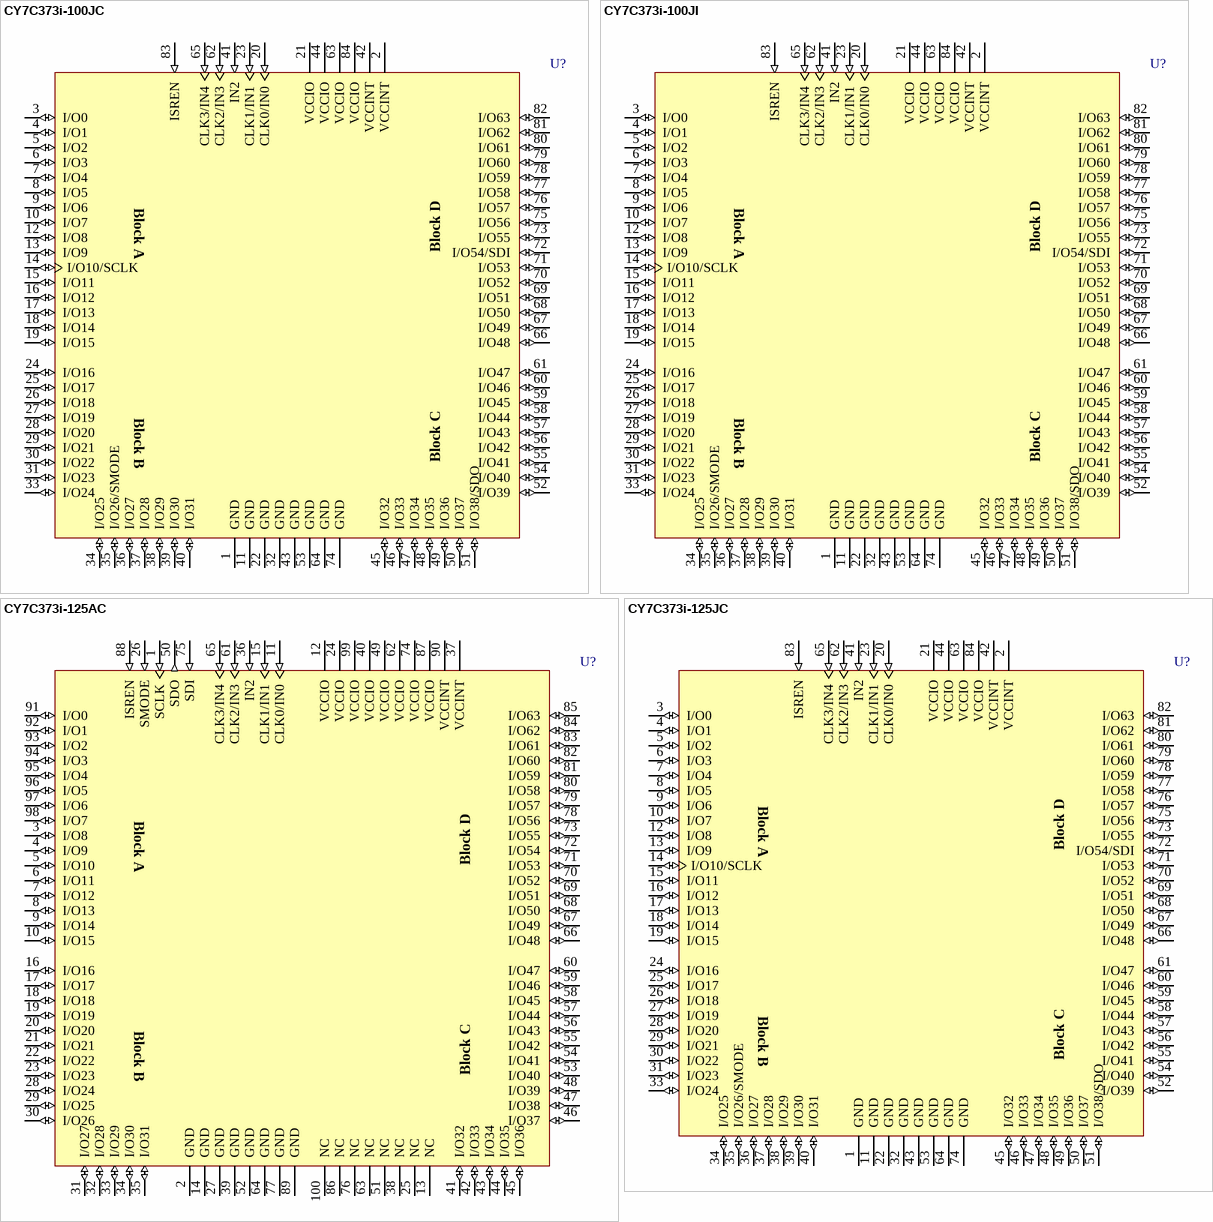
[diagram p6: symbols CY7C373i-100JC to CY7C373i-125JC]

## CY7C373i-100JC
designator U?
Ultralogic 64-Macrocell Flash CPLD; ComponentAvailability: Not for New Design; Published: 11-Dec-2002; LatestRevisionDate: 13-Apr-2006; LatestRevisionNote: IPC-7351 Footprint Added.; DatasheetVersion: 10-Jul-2000; PackageVersion: Mar-2001; PackageReference: J83; Publisher: Altium Limited; PackageDescription: 84-Pin Plastic Leaded Chip Carrier 1.27 mm Pitch; Code_IPC: PLCC-84; ComponentLink1Description: Manufacturer Link; ComponentLink1URL: http://www.cypress.com/; ComponentLink2Description: Datasheet; ComponentLink2URL: http://www.cypress.com/portal/server.pt/gateway/PTARGS_0_2_1524_209_259_43/http%3B/sjapp20.mis.cypress.com%3B7001/publishedcontent/publish/design_resources/datasheets/contents/cy7c373i_5.pdf
footprint J83_N (Leaded Chip Carrier, 84-Leads, Body 29.3x29.3mm, Pitch 1.27mm, IPC Medium Density)
footprint J83_L (Leaded Chip Carrier, 84-Leads, Body 29.3x29.3mm, Pitch 1.27mm, IPC High Density)
footprint J83_M (Leaded Chip Carrier, 84-Leads, Body 29.3x29.3mm, Pitch 1.27mm, IPC Low Density)
3D model CY7C373i-J83 (84-Pin Plastic Leaded Chip Carrier 1.27 mm Pitch)
pins: 1 GND (power), 2 VCCINT (power), 3 I/O0 (io), 4 I/O1 (io), 5 I/O2 (io), 6 I/O3 (io), 7 I/O4 (io), 8 I/O5 (io), 9 I/O6 (io), 10 I/O7 (io), 11 GND (power), 12 I/O8 (io), 13 I/O9 (io), 14 I/O10/SCLK (io), 15 I/O11 (io), 16 I/O12 (io), 17 I/O13 (io), 18 I/O14 (io), 19 I/O15 (io), 20 CLK0/IN0 (in), 21 VCCIO (power), 22 GND (power), 23 CLK1/IN1 (in), 24 I/O16 (io), 25 I/O17 (io), 26 I/O18 (io), 27 I/O19 (io), 28 I/O20 (io), 29 I/O21 (io), 30 I/O22 (io), 31 I/O23 (io), 32 GND (power), 33 I/O24 (io), 34 I/O25 (io), 35 I/O26/SMODE (io), 36 I/O27 (io), 37 I/O28 (io), 38 I/O29 (io), 39 I/O30 (io), 40 I/O31 (io), 41 IN2 (in), 42 VCCINT (power), 43 GND (power), 44 VCCIO (power), 45 I/O32 (io), 46 I/O33 (io), 47 I/O34 (io), 48 I/O35 (io), 49 I/O36 (io), 50 I/O37 (io), 51 I/O38/SDO (io), 52 I/O39 (io), 53 GND (power), 54 I/O40 (io), 55 I/O41 (io), 56 I/O42 (io), 57 I/O43 (io), 58 I/O44 (io), 59 I/O45 (io), 60 I/O46 (io), 61 I/O47 (io), 62 CLK2/IN3 (in), 63 VCCIO (power), 64 GND (power), 65 CLK3/IN4 (in), 66 I/O48 (io), 67 I/O49 (io), 68 I/O50 (io), 69 I/O51 (io), 70 I/O52 (io), 71 I/O53 (io), 72 I/O54/SDI (io), 73 I/O55 (io), 74 GND (power), 75 I/O56 (io), 76 I/O57 (io), 77 I/O58 (io), 78 I/O59 (io), 79 I/O60 (io), 80 I/O61 (io), 81 I/O62 (io), 82 I/O63 (io), 83 ISREN (in), 84 VCCIO (power)
text: Block A; Block D; Block B; Block C

## CY7C373i-100JI
designator U?
Ultralogic 64-Macrocell Flash CPLD; ComponentAvailability: Not for New Design; Published: 11-Dec-2002; LatestRevisionDate: 13-Apr-2006; LatestRevisionNote: IPC-7351 Footprint Added.; DatasheetVersion: 10-Jul-2000; PackageVersion: Mar-2001; PackageReference: J83; Publisher: Altium Limited; PackageDescription: 84-Pin Plastic Leaded Chip Carrier 1.27 mm Pitch; Code_IPC: PLCC-84; ComponentLink1Description: Manufacturer Link; ComponentLink1URL: http://www.cypress.com/; ComponentLink2Description: Datasheet; ComponentLink2URL: http://www.cypress.com/portal/server.pt/gateway/PTARGS_0_2_1524_209_259_43/http%3B/sjapp20.mis.cypress.com%3B7001/publishedcontent/publish/design_resources/datasheets/contents/cy7c373i_5.pdf
footprint J83_N (Leaded Chip Carrier, 84-Leads, Body 29.3x29.3mm, Pitch 1.27mm, IPC Medium Density)
footprint J83_L (Leaded Chip Carrier, 84-Leads, Body 29.3x29.3mm, Pitch 1.27mm, IPC High Density)
footprint J83_M (Leaded Chip Carrier, 84-Leads, Body 29.3x29.3mm, Pitch 1.27mm, IPC Low Density)
3D model CY7C373i-J83 (84-Pin Plastic Leaded Chip Carrier 1.27 mm Pitch)
pins: 1 GND (power), 2 VCCINT (power), 3 I/O0 (io), 4 I/O1 (io), 5 I/O2 (io), 6 I/O3 (io), 7 I/O4 (io), 8 I/O5 (io), 9 I/O6 (io), 10 I/O7 (io), 11 GND (power), 12 I/O8 (io), 13 I/O9 (io), 14 I/O10/SCLK (io), 15 I/O11 (io), 16 I/O12 (io), 17 I/O13 (io), 18 I/O14 (io), 19 I/O15 (io), 20 CLK0/IN0 (in), 21 VCCIO (power), 22 GND (power), 23 CLK1/IN1 (in), 24 I/O16 (io), 25 I/O17 (io), 26 I/O18 (io), 27 I/O19 (io), 28 I/O20 (io), 29 I/O21 (io), 30 I/O22 (io), 31 I/O23 (io), 32 GND (power), 33 I/O24 (io), 34 I/O25 (io), 35 I/O26/SMODE (io), 36 I/O27 (io), 37 I/O28 (io), 38 I/O29 (io), 39 I/O30 (io), 40 I/O31 (io), 41 IN2 (in), 42 VCCINT (power), 43 GND (power), 44 VCCIO (power), 45 I/O32 (io), 46 I/O33 (io), 47 I/O34 (io), 48 I/O35 (io), 49 I/O36 (io), 50 I/O37 (io), 51 I/O38/SDO (io), 52 I/O39 (io), 53 GND (power), 54 I/O40 (io), 55 I/O41 (io), 56 I/O42 (io), 57 I/O43 (io), 58 I/O44 (io), 59 I/O45 (io), 60 I/O46 (io), 61 I/O47 (io), 62 CLK2/IN3 (in), 63 VCCIO (power), 64 GND (power), 65 CLK3/IN4 (in), 66 I/O48 (io), 67 I/O49 (io), 68 I/O50 (io), 69 I/O51 (io), 70 I/O52 (io), 71 I/O53 (io), 72 I/O54/SDI (io), 73 I/O55 (io), 74 GND (power), 75 I/O56 (io), 76 I/O57 (io), 77 I/O58 (io), 78 I/O59 (io), 79 I/O60 (io), 80 I/O61 (io), 81 I/O62 (io), 82 I/O63 (io), 83 ISREN (in), 84 VCCIO (power)
text: Block A; Block D; Block B; Block C

## CY7C373i-125AC
designator U?
Ultralogic 64-Macrocell Flash CPLD; ComponentAvailability: Not for New Design; Published: 11-Dec-2002; LatestRevisionDate: 13-Apr-2006; LatestRevisionNote: IPC-7351 Footprint Added.; DatasheetVersion: 10-Jul-2000; PackageVersion: Mar-2001; PackageReference: A100; Publisher: Altium Limited; PackageDescription: 100-Pin Thin Quad Flat Pack 0.5 mm Pitch; ComponentLink1Description: Manufacturer Link; ComponentLink1URL: http://www.cypress.com/; ComponentLink2Description: Datasheet; ComponentLink2URL: http://www.cypress.com/portal/server.pt/gateway/PTARGS_0_2_1524_209_259_43/http%3B/sjapp20.mis.cypress.com%3B7001/publishedcontent/publish/design_resources/datasheets/contents/cy7c373i_5.pdf
footprint A100_N (Thin QFP, 100-Leads, Body 14x14mm, Pitch 0.5mm, IPC Medium Density)
footprint A100_L (Thin QFP, 100-Leads, Body 14x14mm, Pitch 0.5mm, IPC High Density)
footprint A100_M (Thin QFP, 100-Leads, Body 14x14mm, Pitch 0.5mm, IPC Low Density)
3D model CY7C373i-A100 (100-Pin Thin Quad Flat Pack 0.5 mm Pitch)
pins: 1 SCLK (in), 2 GND (power), 3 I/O8 (io), 4 I/O9 (io), 5 I/O10 (io), 6 I/O11 (io), 7 I/O12 (io), 8 I/O13 (io), 9 I/O14 (io), 10 I/O15 (io), 11 CLK0/IN0 (in), 12 VCCIO (power), 13 NC, 14 GND (power), 15 CLK1/IN1 (in), 16 I/O16 (io), 17 I/O17 (io), 18 I/O18 (io), 19 I/O19 (io), 20 I/O20 (io), 21 I/O21 (io), 22 I/O22 (io), 23 I/O23 (io), 24 VCCIO (power), 25 NC, 26 SMODE (in), 27 GND (power), 28 I/O24 (io), 29 I/O25 (io), 30 I/O26 (io), 31 I/O27 (io), 32 I/O28 (io), 33 I/O29 (io), 34 I/O30 (io), 35 I/O31 (io), 36 IN2 (in), 37 VCCINT (power), 38 NC, 39 GND (power), 40 VCCIO (power), 41 I/O32 (io), 42 I/O33 (io), 43 I/O34 (io), 44 I/O35 (io), 45 I/O36 (io), 46 I/O37 (io), 47 I/O38 (io), 48 I/O39 (io), 49 VCCIO (power), 50 SDO (out), 51 NC, 52 GND (power), 53 I/O40 (io), 54 I/O41 (io), 55 I/O42 (io), 56 I/O43 (io), 57 I/O44 (io), 58 I/O45 (io), 59 I/O46 (io), 60 I/O47 (io), 61 CLK2/IN3 (in), 62 VCCIO (power), 63 NC, 64 GND (power), 65 CLK3/IN4 (in), 66 I/O48 (io), 67 I/O49 (io), 68 I/O50 (io), 69 I/O51 (io), 70 I/O52 (io), 71 I/O53 (io), 72 I/O54 (io), 73 I/O55 (io), 74 VCCIO (power), 75 SDI (in), 76 NC, 77 GND (power), 78 I/O56 (io), 79 I/O57 (io), 80 I/O58 (io), 81 I/O59 (io), 82 I/O60 (io), 83 I/O61 (io), 84 I/O62 (io), 85 I/O63 (io), 86 NC, 87 VCCIO (power), 88 ISREN (in), 89 GND (power), 90 VCCINT (power), 91 I/O0 (io), 92 I/O1 (io), 93 I/O2 (io), 94 I/O3 (io), 95 I/O4 (io), 96 I/O5 (io), 97 I/O6 (io), 98 I/O7 (io), 99 VCCIO (power), 100 NC
text: Block A; Block D; Block B; Block C

## CY7C373i-125JC
designator U?
Ultralogic 64-Macrocell Flash CPLD; ComponentAvailability: Not for New Design; Published: 11-Dec-2002; LatestRevisionDate: 13-Apr-2006; LatestRevisionNote: IPC-7351 Footprint Added.; DatasheetVersion: 10-Jul-2000; PackageVersion: Mar-2001; PackageReference: J83; Publisher: Altium Limited; PackageDescription: 84-Pin Plastic Leaded Chip Carrier 1.27 mm Pitch; Code_IPC: PLCC-84; ComponentLink1Description: Manufacturer Link; ComponentLink1URL: http://www.cypress.com/; ComponentLink2Description: Datasheet; ComponentLink2URL: http://www.cypress.com/portal/server.pt/gateway/PTARGS_0_2_1524_209_259_43/http%3B/sjapp20.mis.cypress.com%3B7001/publishedcontent/publish/design_resources/datasheets/contents/cy7c373i_5.pdf
footprint J83_N (Leaded Chip Carrier, 84-Leads, Body 29.3x29.3mm, Pitch 1.27mm, IPC Medium Density)
footprint J83_L (Leaded Chip Carrier, 84-Leads, Body 29.3x29.3mm, Pitch 1.27mm, IPC High Density)
footprint J83_M (Leaded Chip Carrier, 84-Leads, Body 29.3x29.3mm, Pitch 1.27mm, IPC Low Density)
3D model CY7C373i-J83 (84-Pin Plastic Leaded Chip Carrier 1.27 mm Pitch)
pins: 1 GND (power), 2 VCCINT (power), 3 I/O0 (io), 4 I/O1 (io), 5 I/O2 (io), 6 I/O3 (io), 7 I/O4 (io), 8 I/O5 (io), 9 I/O6 (io), 10 I/O7 (io), 11 GND (power), 12 I/O8 (io), 13 I/O9 (io), 14 I/O10/SCLK (io), 15 I/O11 (io), 16 I/O12 (io), 17 I/O13 (io), 18 I/O14 (io), 19 I/O15 (io), 20 CLK0/IN0 (in), 21 VCCIO (power), 22 GND (power), 23 CLK1/IN1 (in), 24 I/O16 (io), 25 I/O17 (io), 26 I/O18 (io), 27 I/O19 (io), 28 I/O20 (io), 29 I/O21 (io), 30 I/O22 (io), 31 I/O23 (io), 32 GND (power), 33 I/O24 (io), 34 I/O25 (io), 35 I/O26/SMODE (io), 36 I/O27 (io), 37 I/O28 (io), 38 I/O29 (io), 39 I/O30 (io), 40 I/O31 (io), 41 IN2 (in), 42 VCCINT (power), 43 GND (power), 44 VCCIO (power), 45 I/O32 (io), 46 I/O33 (io), 47 I/O34 (io), 48 I/O35 (io), 49 I/O36 (io), 50 I/O37 (io), 51 I/O38/SDO (io), 52 I/O39 (io), 53 GND (power), 54 I/O40 (io), 55 I/O41 (io), 56 I/O42 (io), 57 I/O43 (io), 58 I/O44 (io), 59 I/O45 (io), 60 I/O46 (io), 61 I/O47 (io), 62 CLK2/IN3 (in), 63 VCCIO (power), 64 GND (power), 65 CLK3/IN4 (in), 66 I/O48 (io), 67 I/O49 (io), 68 I/O50 (io), 69 I/O51 (io), 70 I/O52 (io), 71 I/O53 (io), 72 I/O54/SDI (io), 73 I/O55 (io), 74 GND (power), 75 I/O56 (io), 76 I/O57 (io), 77 I/O58 (io), 78 I/O59 (io), 79 I/O60 (io), 80 I/O61 (io), 81 I/O62 (io), 82 I/O63 (io), 83 ISREN (in), 84 VCCIO (power)
text: Block A; Block D; Block B; Block C

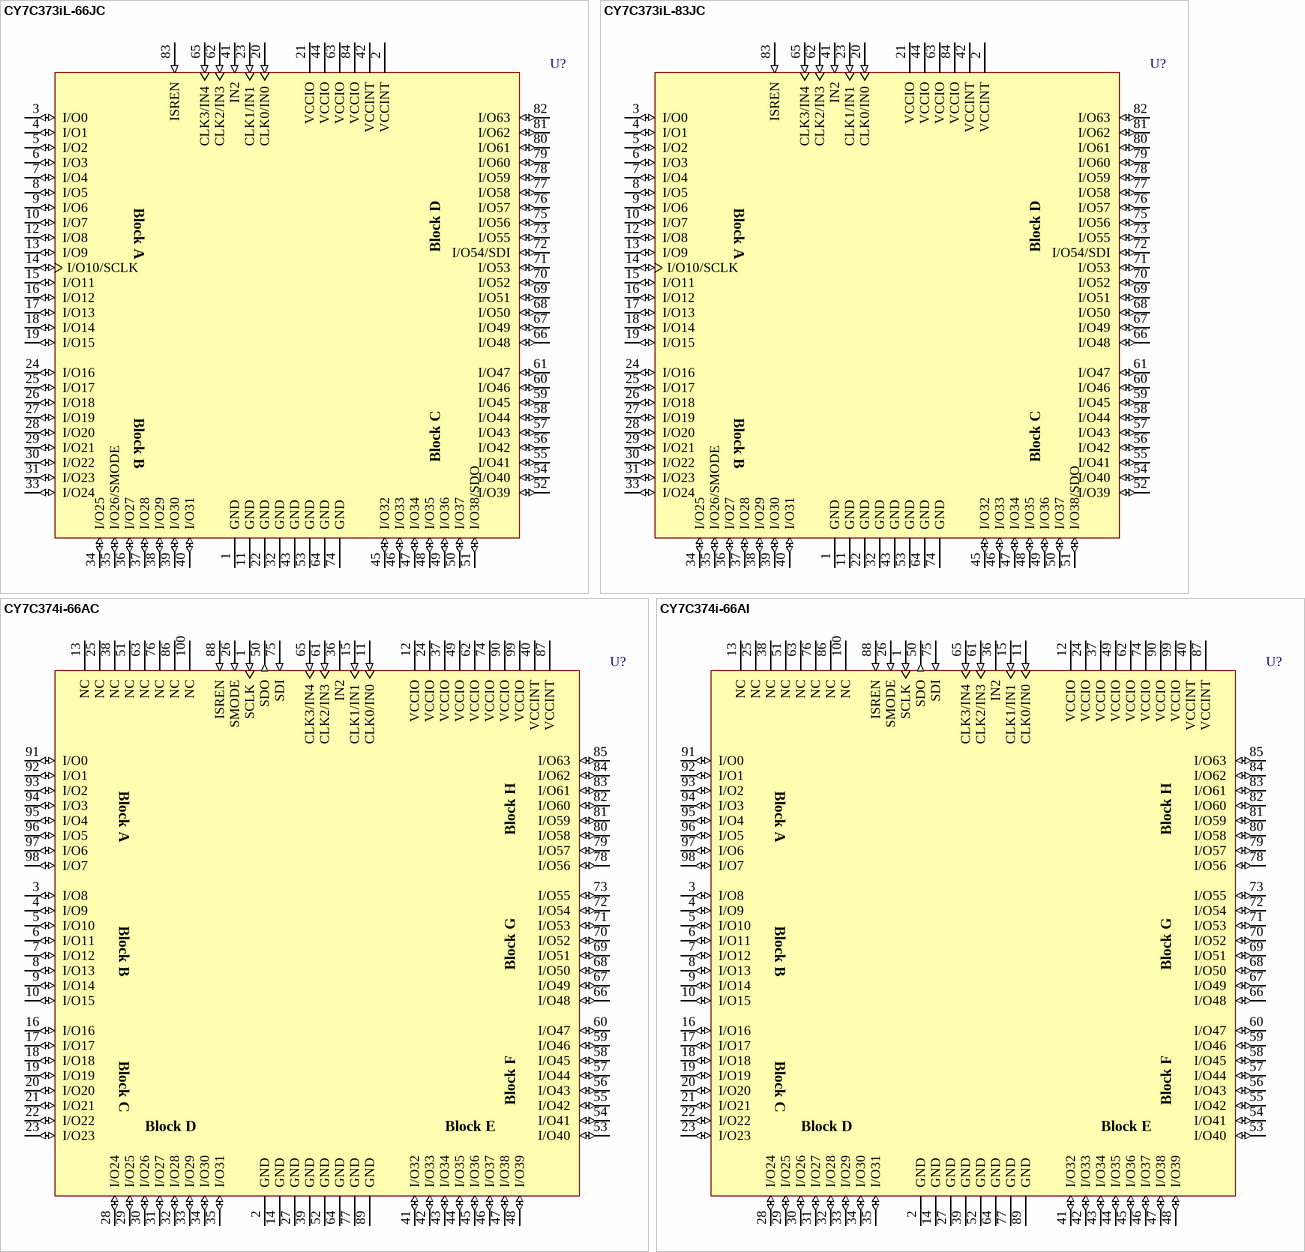
[diagram p7: symbols CY7C373iL-66JC to CY7C374i-66AI]

## CY7C373iL-66JC
designator U?
Ultralogic 64-Macrocell Flash CPLD; ComponentAvailability: Not for New Design; Published: 11-Dec-2002; LatestRevisionDate: 13-Apr-2006; LatestRevisionNote: IPC-7351 Footprint Added.; DatasheetVersion: 10-Jul-2000; PackageVersion: Mar-2001; PackageReference: J83; Publisher: Altium Limited; PackageDescription: 84-Pin Plastic Leaded Chip Carrier 1.27 mm Pitch; Code_IPC: PLCC-84; ComponentLink1Description: Manufacturer Link; ComponentLink1URL: http://www.cypress.com/; ComponentLink2Description: Datasheet; ComponentLink2URL: http://www.cypress.com/portal/server.pt/gateway/PTARGS_0_2_1524_209_259_43/http%3B/sjapp20.mis.cypress.com%3B7001/publishedcontent/publish/design_resources/datasheets/contents/cy7c373i_5.pdf
footprint J83_N (Leaded Chip Carrier, 84-Leads, Body 29.3x29.3mm, Pitch 1.27mm, IPC Medium Density)
footprint J83_L (Leaded Chip Carrier, 84-Leads, Body 29.3x29.3mm, Pitch 1.27mm, IPC High Density)
footprint J83_M (Leaded Chip Carrier, 84-Leads, Body 29.3x29.3mm, Pitch 1.27mm, IPC Low Density)
3D model CY7C373iL-J83 (84-Pin Plastic Leaded Chip Carrier 1.27 mm Pitch)
pins: 1 GND (power), 2 VCCINT (power), 3 I/O0 (io), 4 I/O1 (io), 5 I/O2 (io), 6 I/O3 (io), 7 I/O4 (io), 8 I/O5 (io), 9 I/O6 (io), 10 I/O7 (io), 11 GND (power), 12 I/O8 (io), 13 I/O9 (io), 14 I/O10/SCLK (io), 15 I/O11 (io), 16 I/O12 (io), 17 I/O13 (io), 18 I/O14 (io), 19 I/O15 (io), 20 CLK0/IN0 (in), 21 VCCIO (power), 22 GND (power), 23 CLK1/IN1 (in), 24 I/O16 (io), 25 I/O17 (io), 26 I/O18 (io), 27 I/O19 (io), 28 I/O20 (io), 29 I/O21 (io), 30 I/O22 (io), 31 I/O23 (io), 32 GND (power), 33 I/O24 (io), 34 I/O25 (io), 35 I/O26/SMODE (io), 36 I/O27 (io), 37 I/O28 (io), 38 I/O29 (io), 39 I/O30 (io), 40 I/O31 (io), 41 IN2 (in), 42 VCCINT (power), 43 GND (power), 44 VCCIO (power), 45 I/O32 (io), 46 I/O33 (io), 47 I/O34 (io), 48 I/O35 (io), 49 I/O36 (io), 50 I/O37 (io), 51 I/O38/SDO (io), 52 I/O39 (io), 53 GND (power), 54 I/O40 (io), 55 I/O41 (io), 56 I/O42 (io), 57 I/O43 (io), 58 I/O44 (io), 59 I/O45 (io), 60 I/O46 (io), 61 I/O47 (io), 62 CLK2/IN3 (in), 63 VCCIO (power), 64 GND (power), 65 CLK3/IN4 (in), 66 I/O48 (io), 67 I/O49 (io), 68 I/O50 (io), 69 I/O51 (io), 70 I/O52 (io), 71 I/O53 (io), 72 I/O54/SDI (io), 73 I/O55 (io), 74 GND (power), 75 I/O56 (io), 76 I/O57 (io), 77 I/O58 (io), 78 I/O59 (io), 79 I/O60 (io), 80 I/O61 (io), 81 I/O62 (io), 82 I/O63 (io), 83 ISREN (in), 84 VCCIO (power)
text: Block A; Block D; Block B; Block C

## CY7C373iL-83JC
designator U?
Ultralogic 64-Macrocell Flash CPLD; ComponentAvailability: Not for New Design; Published: 11-Dec-2002; LatestRevisionDate: 13-Apr-2006; LatestRevisionNote: IPC-7351 Footprint Added.; DatasheetVersion: 10-Jul-2000; PackageVersion: Mar-2001; PackageReference: J83; Publisher: Altium Limited; PackageDescription: 84-Pin Plastic Leaded Chip Carrier 1.27 mm Pitch; Code_IPC: PLCC-84; ComponentLink1Description: Manufacturer Link; ComponentLink1URL: http://www.cypress.com/; ComponentLink2Description: Datasheet; ComponentLink2URL: http://www.cypress.com/portal/server.pt/gateway/PTARGS_0_2_1524_209_259_43/http%3B/sjapp20.mis.cypress.com%3B7001/publishedcontent/publish/design_resources/datasheets/contents/cy7c373i_5.pdf
footprint J83_N (Leaded Chip Carrier, 84-Leads, Body 29.3x29.3mm, Pitch 1.27mm, IPC Medium Density)
footprint J83_L (Leaded Chip Carrier, 84-Leads, Body 29.3x29.3mm, Pitch 1.27mm, IPC High Density)
footprint J83_M (Leaded Chip Carrier, 84-Leads, Body 29.3x29.3mm, Pitch 1.27mm, IPC Low Density)
3D model CY7C373iL-J83 (84-Pin Plastic Leaded Chip Carrier 1.27 mm Pitch)
pins: 1 GND (power), 2 VCCINT (power), 3 I/O0 (io), 4 I/O1 (io), 5 I/O2 (io), 6 I/O3 (io), 7 I/O4 (io), 8 I/O5 (io), 9 I/O6 (io), 10 I/O7 (io), 11 GND (power), 12 I/O8 (io), 13 I/O9 (io), 14 I/O10/SCLK (io), 15 I/O11 (io), 16 I/O12 (io), 17 I/O13 (io), 18 I/O14 (io), 19 I/O15 (io), 20 CLK0/IN0 (in), 21 VCCIO (power), 22 GND (power), 23 CLK1/IN1 (in), 24 I/O16 (io), 25 I/O17 (io), 26 I/O18 (io), 27 I/O19 (io), 28 I/O20 (io), 29 I/O21 (io), 30 I/O22 (io), 31 I/O23 (io), 32 GND (power), 33 I/O24 (io), 34 I/O25 (io), 35 I/O26/SMODE (io), 36 I/O27 (io), 37 I/O28 (io), 38 I/O29 (io), 39 I/O30 (io), 40 I/O31 (io), 41 IN2 (in), 42 VCCINT (power), 43 GND (power), 44 VCCIO (power), 45 I/O32 (io), 46 I/O33 (io), 47 I/O34 (io), 48 I/O35 (io), 49 I/O36 (io), 50 I/O37 (io), 51 I/O38/SDO (io), 52 I/O39 (io), 53 GND (power), 54 I/O40 (io), 55 I/O41 (io), 56 I/O42 (io), 57 I/O43 (io), 58 I/O44 (io), 59 I/O45 (io), 60 I/O46 (io), 61 I/O47 (io), 62 CLK2/IN3 (in), 63 VCCIO (power), 64 GND (power), 65 CLK3/IN4 (in), 66 I/O48 (io), 67 I/O49 (io), 68 I/O50 (io), 69 I/O51 (io), 70 I/O52 (io), 71 I/O53 (io), 72 I/O54/SDI (io), 73 I/O55 (io), 74 GND (power), 75 I/O56 (io), 76 I/O57 (io), 77 I/O58 (io), 78 I/O59 (io), 79 I/O60 (io), 80 I/O61 (io), 81 I/O62 (io), 82 I/O63 (io), 83 ISREN (in), 84 VCCIO (power)
text: Block A; Block D; Block B; Block C

## CY7C374i-66AC
designator U?
Ultralogic 128-Macrocell Flash CPLD; ComponentAvailability: Not for New Design; Published: 11-Dec-2002; LatestRevisionDate: 13-Apr-2006; LatestRevisionNote: IPC-7351 Footprint Added.; DatasheetVersion: 10-Jul-2000; PackageVersion: Mar-2001; PackageReference: A100; Publisher: Altium Limited; PackageDescription: 100-Pin Thin Quad Flat Pack 0.5 mm Pitch; ComponentLink1Description: Manufacturer Link; ComponentLink1URL: http://www.cypress.com/; ComponentLink2Description: Datasheet; ComponentLink2URL: http://www.cypress.com/portal/server.pt/gateway/PTARGS_0_2_1524_209_259_43/http%3B/sjapp20.mis.cypress.com%3B7001/publishedcontent/publish/design_resources/datasheets/contents/cy7c374i_5.pdf
footprint A100_N (Thin QFP, 100-Leads, Body 14x14mm, Pitch 0.5mm, IPC Medium Density)
footprint A100_L (Thin QFP, 100-Leads, Body 14x14mm, Pitch 0.5mm, IPC High Density)
footprint A100_M (Thin QFP, 100-Leads, Body 14x14mm, Pitch 0.5mm, IPC Low Density)
3D model CY7C374i-A100 (100-Pin Thin Quad Flat Pack 0.5 mm Pitch)
pins: 1 SCLK (in), 2 GND (power), 3 I/O8 (io), 4 I/O9 (io), 5 I/O10 (io), 6 I/O11 (io), 7 I/O12 (io), 8 I/O13 (io), 9 I/O14 (io), 10 I/O15 (io), 11 CLK0/IN0 (in), 12 VCCIO (power), 13 NC, 14 GND (power), 15 CLK1/IN1 (in), 16 I/O16 (io), 17 I/O17 (io), 18 I/O18 (io), 19 I/O19 (io), 20 I/O20 (io), 21 I/O21 (io), 22 I/O22 (io), 23 I/O23 (io), 24 VCCIO (power), 25 NC, 26 SMODE (in), 27 GND (power), 28 I/O24 (io), 29 I/O25 (io), 30 I/O26 (io), 31 I/O27 (io), 32 I/O28 (io), 33 I/O29 (io), 34 I/O30 (io), 35 I/O31 (io), 36 IN2, 37 VCCIO (power), 38 NC, 39 GND (power), 40 VCCINT (power), 41 I/O32 (io), 42 I/O33 (io), 43 I/O34 (io), 44 I/O35 (io), 45 I/O36 (io), 46 I/O37 (io), 47 I/O38 (io), 48 I/O39 (io), 49 VCCIO (power), 50 SDO (out), 51 NC, 52 GND (power), 53 I/O40 (io), 54 I/O41 (io), 55 I/O42 (io), 56 I/O43 (io), 57 I/O44 (io), 58 I/O45 (io), 59 I/O46 (io), 60 I/O47 (io), 61 CLK2/IN3 (in), 62 VCCIO (power), 63 NC, 64 GND (power), 65 CLK3/IN4 (in), 66 I/O48 (io), 67 I/O49 (io), 68 I/O50 (io), 69 I/O51 (io), 70 I/O52 (io), 71 I/O53 (io), 72 I/O54 (io), 73 I/O55 (io), 74 VCCIO (power), 75 SDI (in), 76 NC, 77 GND (power), 78 I/O56 (io), 79 I/O57 (io), 80 I/O58 (io), 81 I/O59 (io), 82 I/O60 (io), 83 I/O61 (io), 84 I/O62 (io), 85 I/O63 (io), 86 NC, 87 VCCINT (power), 88 ISREN (in), 89 GND (power), 90 VCCIO (power), 91 I/O0 (io), 92 I/O1 (io), 93 I/O2 (io), 94 I/O3 (io), 95 I/O4 (io), 96 I/O5 (io), 97 I/O6 (io), 98 I/O7 (io), 99 VCCIO (power), 100 NC
text: Block A; Block H; Block B; Block G; Block C; Block F; Block D; Block E

## CY7C374i-66AI
designator U?
Ultralogic 128-Macrocell Flash CPLD; ComponentAvailability: Not for New Design; Published: 11-Dec-2002; LatestRevisionDate: 13-Apr-2006; LatestRevisionNote: IPC-7351 Footprint Added.; DatasheetVersion: 10-Jul-2000; PackageVersion: Mar-2001; PackageReference: A100; Publisher: Altium Limited; PackageDescription: 100-Pin Thin Quad Flat Pack 0.5 mm Pitch; ComponentLink1Description: Manufacturer Link; ComponentLink1URL: http://www.cypress.com/; ComponentLink2Description: Datasheet; ComponentLink2URL: http://www.cypress.com/portal/server.pt/gateway/PTARGS_0_2_1524_209_259_43/http%3B/sjapp20.mis.cypress.com%3B7001/publishedcontent/publish/design_resources/datasheets/contents/cy7c374i_5.pdf
footprint A100_N (Thin QFP, 100-Leads, Body 14x14mm, Pitch 0.5mm, IPC Medium Density)
footprint A100_L (Thin QFP, 100-Leads, Body 14x14mm, Pitch 0.5mm, IPC High Density)
footprint A100_M (Thin QFP, 100-Leads, Body 14x14mm, Pitch 0.5mm, IPC Low Density)
3D model CY7C374i-A100 (100-Pin Thin Quad Flat Pack 0.5 mm Pitch)
pins: 1 SCLK (in), 2 GND (power), 3 I/O8 (io), 4 I/O9 (io), 5 I/O10 (io), 6 I/O11 (io), 7 I/O12 (io), 8 I/O13 (io), 9 I/O14 (io), 10 I/O15 (io), 11 CLK0/IN0 (in), 12 VCCIO (power), 13 NC, 14 GND (power), 15 CLK1/IN1 (in), 16 I/O16 (io), 17 I/O17 (io), 18 I/O18 (io), 19 I/O19 (io), 20 I/O20 (io), 21 I/O21 (io), 22 I/O22 (io), 23 I/O23 (io), 24 VCCIO (power), 25 NC, 26 SMODE (in), 27 GND (power), 28 I/O24 (io), 29 I/O25 (io), 30 I/O26 (io), 31 I/O27 (io), 32 I/O28 (io), 33 I/O29 (io), 34 I/O30 (io), 35 I/O31 (io), 36 IN2, 37 VCCIO (power), 38 NC, 39 GND (power), 40 VCCINT (power), 41 I/O32 (io), 42 I/O33 (io), 43 I/O34 (io), 44 I/O35 (io), 45 I/O36 (io), 46 I/O37 (io), 47 I/O38 (io), 48 I/O39 (io), 49 VCCIO (power), 50 SDO (out), 51 NC, 52 GND (power), 53 I/O40 (io), 54 I/O41 (io), 55 I/O42 (io), 56 I/O43 (io), 57 I/O44 (io), 58 I/O45 (io), 59 I/O46 (io), 60 I/O47 (io), 61 CLK2/IN3 (in), 62 VCCIO (power), 63 NC, 64 GND (power), 65 CLK3/IN4 (in), 66 I/O48 (io), 67 I/O49 (io), 68 I/O50 (io), 69 I/O51 (io), 70 I/O52 (io), 71 I/O53 (io), 72 I/O54 (io), 73 I/O55 (io), 74 VCCIO (power), 75 SDI (in), 76 NC, 77 GND (power), 78 I/O56 (io), 79 I/O57 (io), 80 I/O58 (io), 81 I/O59 (io), 82 I/O60 (io), 83 I/O61 (io), 84 I/O62 (io), 85 I/O63 (io), 86 NC, 87 VCCINT (power), 88 ISREN (in), 89 GND (power), 90 VCCIO (power), 91 I/O0 (io), 92 I/O1 (io), 93 I/O2 (io), 94 I/O3 (io), 95 I/O4 (io), 96 I/O5 (io), 97 I/O6 (io), 98 I/O7 (io), 99 VCCIO (power), 100 NC
text: Block A; Block H; Block B; Block G; Block C; Block F; Block D; Block E

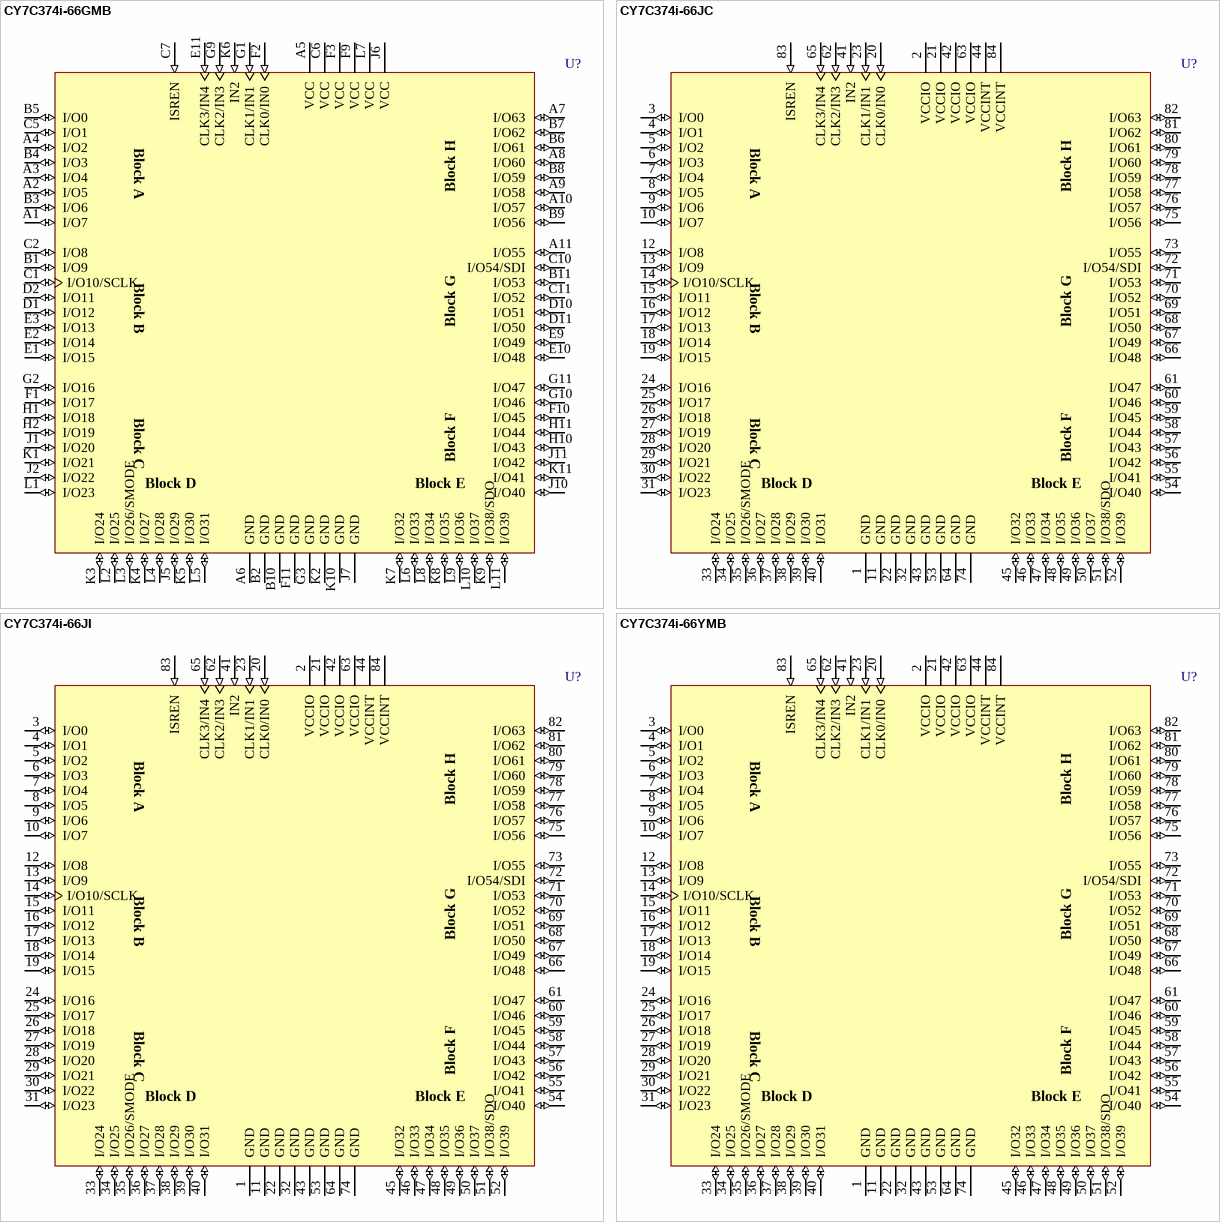
[diagram p8: symbols CY7C374i-66GMB to CY7C374i-66YMB]

## CY7C374i-66GMB
designator U?
Ultralogic 128-Macrocell Flash CPLD; ComponentAvailability: Not for New Design; Published: 11-Dec-2002; LatestRevisionDate: 04-Mar-2005; LatestRevisionNote: Stylized 3D Model Added.; DatasheetVersion: 10-Jul-2000; PackageVersion: Jul-2001; PackageReference: G84; Publisher: Altium Limited; PackageDescription: 84-Pin Pin Grid Array 2.54 mm Pitch; ComponentLink1Description: Manufacturer Link; ComponentLink1URL: http://www.cypress.com/; ComponentLink2Description: Datasheet; ComponentLink2URL: http://www.cypress.com/portal/server.pt/gateway/PTARGS_0_2_1524_209_259_43/http%3B/sjapp20.mis.cypress.com%3B7001/publishedcontent/publish/design_resources/datasheets/contents/cy7c374i_5.pdf
footprint G84 (PGA, 84-Leads, Body 29.5x29.5mm, Pitch 2.54mm)
3D model CY7C374i-G84 (84-Pin Pin Grid Array 2.54 mm Pitch)
pins: A1 I/O7 (io), A2 I/O5 (io), A3 I/O4 (io), A4 I/O2 (io), A5 VCC (power), A6 GND (power), A7 I/O63 (io), A8 I/O60 (io), A9 I/O58 (io), A10 I/O57 (io), A11 I/O55 (io), B1 I/O9 (io), B2 GND (power), B3 I/O6 (io), B4 I/O3 (io), B5 I/O0 (io), B6 I/O61 (io), B7 I/O62 (io), B8 I/O59 (io), B9 I/O56 (io), B10 GND (power), B11 I/O53 (io), C1 I/O10/SCLK (io), C2 I/O8 (io), C5 I/O1 (io), C6 VCC (power), C7 ISREN (in), C10 I/O54/SDI (io), C11 I/O52 (io), D1 I/O12 (io), D2 I/O11 (io), D10 I/O51 (io), D11 I/O50 (io), E1 I/O15 (io), E2 I/O14 (io), E3 I/O13 (io), E9 I/O49 (io), E10 I/O48 (io), E11 CLK3/IN4 (in), F1 I/O17 (io), F2 CLK0/IN0 (in), F3 VCC (power), F9 VCC (power), F10 I/O45 (io), F11 GND (power), G1 CLK1/IN1 (in), G2 I/O16 (io), G3 GND (power), G9 CLK2/IN3 (in), G10 I/O46 (io), G11 I/O47 (io), H1 I/O18 (io), H2 I/O19 (io), H10 I/O43 (io), H11 I/O44 (io), J1 I/O20 (io), J2 I/O22 (io), J5 I/O29 (io), J6 VCC (power), J7 GND (power), J10 I/O40 (io), J11 I/O42 (io), K1 I/O21 (io), K2 GND (power), K3 I/O24 (io), K4 I/O27 (io), K5 I/O30 (io), K6 IN2 (in), K7 I/O32 (io), K8 I/O35 (io), K9 I/O38/SDO (io), K10 GND (power), K11 I/O41 (io), L1 I/O23 (io), L2 I/O25 (io), L3 I/O26/SMODE (io), L4 I/O28 (io), L5 I/O31 (io), L6 I/O33 (io), L7 VCC (power), L8 I/O34 (io), L9 I/O36 (io), L10 I/O37 (io), L11 I/O39 (io)
text: Block A; Block H; Block B; Block G; Block C; Block F; Block D; Block E

## CY7C374i-66JC
designator U?
Ultralogic 128-Macrocell Flash CPLD; ComponentAvailability: Not for New Design; Published: 11-Dec-2002; LatestRevisionDate: 13-Apr-2006; LatestRevisionNote: IPC-7351 Footprint Added.; DatasheetVersion: 10-Jul-2000; PackageVersion: Mar-2001; PackageReference: J83; Publisher: Altium Limited; PackageDescription: 84-Pin Plastic Leaded Chip Carrier 1.27 mm Pitch; Code_IPC: PLCC-84; ComponentLink1Description: Manufacturer Link; ComponentLink1URL: http://www.cypress.com/; ComponentLink2Description: Datasheet; ComponentLink2URL: http://www.cypress.com/portal/server.pt/gateway/PTARGS_0_2_1524_209_259_43/http%3B/sjapp20.mis.cypress.com%3B7001/publishedcontent/publish/design_resources/datasheets/contents/cy7c374i_5.pdf
footprint J83_N (Leaded Chip Carrier, 84-Leads, Body 29.3x29.3mm, Pitch 1.27mm, IPC Medium Density)
footprint J83_L (Leaded Chip Carrier, 84-Leads, Body 29.3x29.3mm, Pitch 1.27mm, IPC High Density)
footprint J83_M (Leaded Chip Carrier, 84-Leads, Body 29.3x29.3mm, Pitch 1.27mm, IPC Low Density)
3D model CY7C374i-J83 (84-Pin Plastic Leaded Chip Carrier 1.27 mm Pitch)
pins: 1 GND (power), 2 VCCIO (power), 3 I/O0 (io), 4 I/O1 (io), 5 I/O2 (io), 6 I/O3 (io), 7 I/O4 (io), 8 I/O5 (io), 9 I/O6 (io), 10 I/O7 (io), 11 GND (power), 12 I/O8 (io), 13 I/O9 (io), 14 I/O10/SCLK (io), 15 I/O11 (io), 16 I/O12 (io), 17 I/O13 (io), 18 I/O14 (io), 19 I/O15 (io), 20 CLK0/IN0 (in), 21 VCCIO (power), 22 GND (power), 23 CLK1/IN1 (in), 24 I/O16 (io), 25 I/O17 (io), 26 I/O18 (io), 27 I/O19 (io), 28 I/O20 (io), 29 I/O21 (io), 30 I/O22 (io), 31 I/O23 (io), 32 GND (power), 33 I/O24 (io), 34 I/O25 (io), 35 I/O26/SMODE (io), 36 I/O27 (io), 37 I/O28 (io), 38 I/O29 (io), 39 I/O30 (io), 40 I/O31 (io), 41 IN2 (in), 42 VCCIO (power), 43 GND (power), 44 VCCINT (power), 45 I/O32 (io), 46 I/O33 (io), 47 I/O34 (io), 48 I/O35 (io), 49 I/O36 (io), 50 I/O37 (io), 51 I/O38/SDO (io), 52 I/O39 (io), 53 GND (power), 54 I/O40 (io), 55 I/O41 (io), 56 I/O42 (io), 57 I/O43 (io), 58 I/O44 (io), 59 I/O45 (io), 60 I/O46 (io), 61 I/O47 (io), 62 CLK2/IN3 (in), 63 VCCIO (power), 64 GND (power), 65 CLK3/IN4 (in), 66 I/O48 (io), 67 I/O49 (io), 68 I/O50 (io), 69 I/O51 (io), 70 I/O52 (io), 71 I/O53 (io), 72 I/O54/SDI (io), 73 I/O55 (io), 74 GND (power), 75 I/O56 (io), 76 I/O57 (io), 77 I/O58 (io), 78 I/O59 (io), 79 I/O60 (io), 80 I/O61 (io), 81 I/O62 (io), 82 I/O63 (io), 83 ISREN (in), 84 VCCINT (power)
text: Block A; Block H; Block B; Block G; Block C; Block F; Block D; Block E